# Altium integrated library Actel SmartFusion.IntLib: 80 symbols (part 4 of 14)
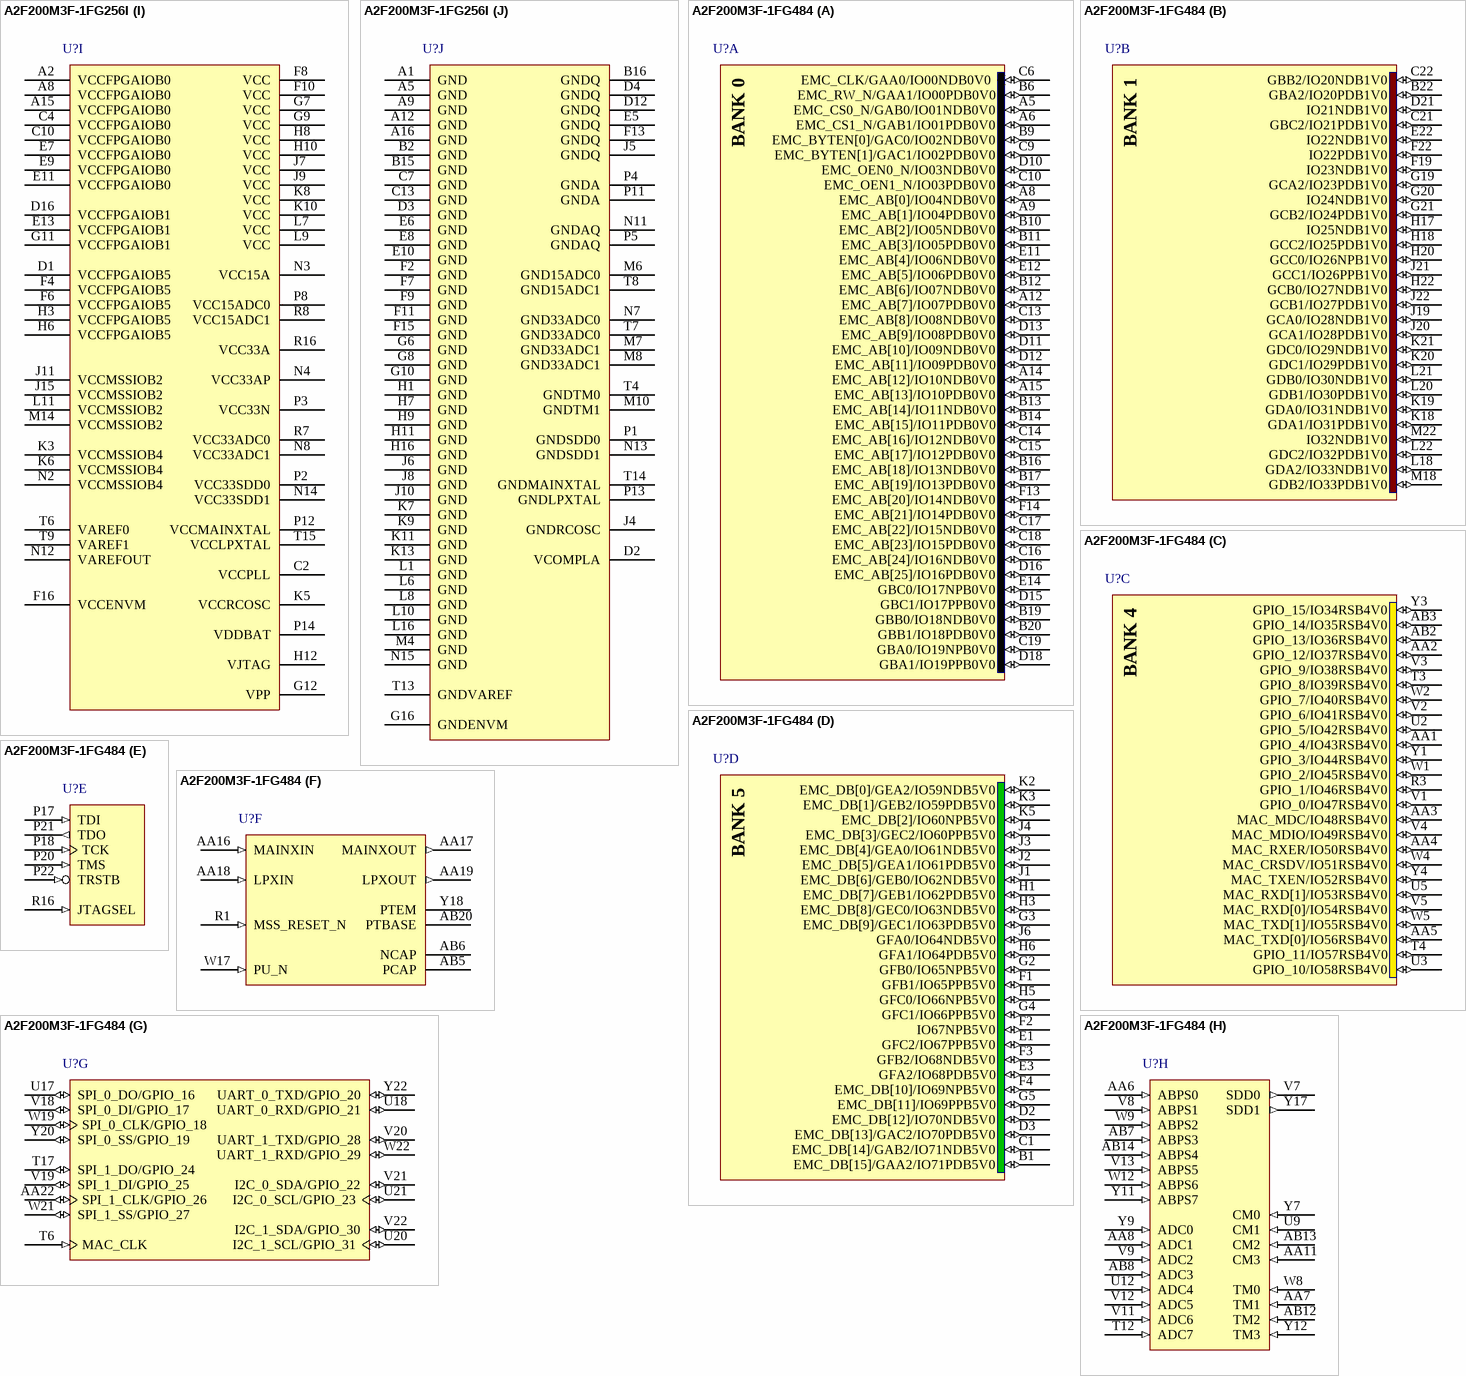
[diagram p88: symbols A2F200M3F-1FG256I to A2F200M3F-1FG484]

## A2F200M3F-1FG256I
designator U?
SmartFusion Intellegent Mixed-Signal FPGA with ARM Cortex-M3, 200000 System Gates, 256-Pin FBGA, 15% Faster than Standard Speed Grade, Industrial Grade; DatasheetVersion: rev7, Aug-2011; PackageVersion: rev39, Aug-2010; PackageReference: FG256; PackageDescription: 256-Ball Fine Pitch Plastic Ball Grid Array 1.00 mm Pitch (FG256); Code_JEDEC: MO-192-DAF-1; ComponentLink1Description: Manufacturer URL; ComponentLink1URL: http://www.actel.com/; ComponentLink2Description: SmartFusion Datasheet; ComponentLink2URL: http://www.actel.com/documents/SmartFusion_DS.pdf; ComponentLink3Description: Package Mechanical Drawings; ComponentLink3URL: http://www.actel.com/documents/PckgMechDrwngs.pdf; ComponentLink4Description: SmartFusion Documents; ComponentLink4URL: http://www.actel.com/products/smartfusion/docs.aspx
footprint FG256 (BGA, 256-Leads, Body 17x17mm, Pitch 1mm)
part A pins: A3 EMC_AB[0]/IO04NDB0V0 (io), A4 EMC_AB[1]/IO04PDB0V0 (io), A6 EMC_AB[3]/IO05PDB0V0 (io), A7 EMC_AB[5]/IO06PDB0V0 (io), A10 EMC_AB[14]/IO11NDB0V0 (io), A11 EMC_AB[15]/IO11PDB0V0 (io), A13 EMC_AB[20]/IO14NDB0V0 (io), A14 EMC_AB[24]/IO16NDB0V0 (io), B3 EMC_BYTEN[1]/GAC1/IO02PDB0V0 (io), B4 EMC_OEN0_N/IO03NDB0V0 (io), B5 EMC_OEN1_N/IO03PDB0V0 (io), B6 EMC_AB[2]/IO05NDB0V0 (io), B7 EMC_AB[4]/IO06NDB0V0 (io), B8 EMC_AB[9]/IO08PDB0V0 (io), B9 EMC_AB[12]/IO10NDB0V0 (io), B10 EMC_AB[13]/IO10PDB0V0 (io), B11 EMC_AB[16]/IO12NDB0V0 (io), B12 EMC_AB[18]/IO13NDB0V0 (io), B13 EMC_AB[21]/IO14PDB0V0 (io), B14 EMC_AB[25]/IO16PDB0V0 (io), C3 EMC_BYTEN[0]/GAC0/IO02NDB0V0 (io), C5 EMC_CS0_N/GAB0/IO01NDB0V0 (io), C6 EMC_CS1_N/GAB1/IO01PDB0V0 (io), C8 EMC_AB[8]/IO08NDB0V0 (io), C9 EMC_AB[11]/IO09PDB0V0 (io), C11 EMC_AB[17]/IO12PDB0V0 (io), C12 EMC_AB[19]/IO13PDB0V0 (io), D5 EMC_CLK/GAA0/IO00NDB0V0 (io), D6 EMC_RW_N/GAA1/IO00PDB0V0 (io), D7 EMC_AB[6]/IO07NDB0V0 (io), D8 EMC_AB[7]/IO07PDB0V0 (io), D9 EMC_AB[10]/IO09NDB0V0 (io), D10 EMC_AB[22]/IO15NDB0V0 (io), D11 EMC_AB[23]/IO15PDB0V0 (io)
part B pins: C14 GBA2/IO20PPB1V0 (io), C15 GCA2/IO23PDB1V0 (io), C16 IO23NDB1V0 (io), D13 GBB2/IO20NPB1V0 (io), D14 GCB2/IO24PDB1V0 (io), D15 IO24NDB1V0 (io), E12 GCA1/IO28PDB1V0 (io), E14 GCB1/IO27PDB1V0 (io), E15 GDC1/IO29PDB1V0 (io), E16 GDC0/IO29NDB1V0 (io), F12 GCA0/IO28NDB1V0 (io), F14 GCB0/IO27NDB1V0 (io)
part C pins: K1 MAC_MDIO/IO49RSB4V0 (io), K2 MAC_MDC/IO48RSB4V0 (io), L2 MAC_TXEN/IO52RSB4V0 (io), L3 MAC_CRSDV/IO51RSB4V0 (io), L4 MAC_RXER/IO50RSB4V0 (io), M1 MAC_TXD[0]/IO56RSB4V0 (io), M2 MAC_TXD[1]/IO55RSB4V0 (io), M3 MAC_RXD[0]/IO54RSB4V0 (io), N1 MAC_RXD[1]/IO53RSB4V0 (io)
part D pins: B1 EMC_DB[15]/GAA2/IO71PDB5V0 (io), C1 EMC_DB[14]/GAB2/IO71NDB5V0 (io), E1 EMC_DB[13]/GAC2/IO70PDB5V0 (io), E2 EMC_DB[12]/IO70NDB5V0 (io), E3 GFA2/IO68PDB5V0 (io), E4 EMC_DB[10]/IO69NPB5V0 (io), F1 EMC_DB[9]/GEC1/IO63PDB5V0 (io), F3 GFB2/IO68NDB5V0 (io), F5 EMC_DB[11]/IO69PPB5V0 (io), G1 EMC_DB[8]/GEC0/IO63NDB5V0 (io), G2 EMC_DB[7]/GEB1/IO62PDB5V0 (io), G3 EMC_DB[6]/GEB0/IO62NDB5V0 (io), G4 GFC2/IO67PDB5V0 (io), G5 IO67NDB5V0 (io), H2 EMC_DB[5]/GEA1/IO61PPB5V0 (io), H4 EMC_DB[1]/GEB2/IO59PDB5V0 (io), H5 EMC_DB[0]/GEA2/IO59NDB5V0 (io), J1 EMC_DB[4]/GEA0/IO61NPB5V0 (io), J2 EMC_DB[3]/GEC2/IO60PDB5V0 (io), J3 EMC_DB[2]/IO60NDB5V0 (io)
part E pins: G13 TRSTB (in), G14 TMS (in), G15 TCK (in), H13 TDO (out), H14 TDI (in), H15 JTAGSEL (in)
part F pins: K4 MSS_RESET_N (in), P15 PTEM, P16 PTBASE, R1 PCAP, R12 MAINXIN (in), R13 MAINXOUT (out), R14 LPXIN (in), R15 LPXOUT (out), T1 NCAP, T16 PU_N (in)
part G pins: J12 I2C_0_SCL/GPIO_23 (io), J13 I2C_0_SDA/GPIO_22 (io), J14 I2C_1_SCL/GPIO_31 (io), J16 I2C_1_SDA/GPIO_30 (io), K12 UART_0_RXD/GPIO_21 (io), K14 UART_1_TXD/GPIO_28 (io), K15 UART_1_RXD/GPIO_29 (io), K16 UART_0_TXD/GPIO_20 (io), L5 MAC_CLK (in), L12 SPI_1_DO/GPIO_24 (io), L13 SPI_1_SS/GPIO_27 (io), L14 SPI_1_CLK/GPIO_26 (io), L15 SPI_1_DI/GPIO_25 (io), M13 SPI_0_SS/GPIO_19 (io), M15 SPI_0_CLK/GPIO_18 (io), M16 SPI_0_DI/GPIO_17 (io), N16 SPI_0_DO/GPIO_16 (io)
part H pins: M5 ADC3 (in), M9 ADC4 (in), M11 TM2 (in), M12 CM2 (in), N5 ABPS3 (in), N6 TM1 (in), N9 ADC5 (in), N10 CM3 (in), P6 CM1 (in), P7 ADC2 (in), P9 ADC6 (in), P10 TM3 (in), R2 SDD0 (out), R3 ABPS0 (in), R4 TM0 (in), R5 ABPS2 (in), R6 ADC1 (in), R9 ADC7 (in), R10 ABPS7 (in), R11 ABPS4 (in), T2 ABPS1 (in), T3 CM0 (in), T5 ADC0 (in), T10 ABPS6 (in), T11 ABPS5 (in), T12 SDD1 (out)
part I pins: A2 VCCFPGAIOB0 (power), A8 VCCFPGAIOB0 (power), A15 VCCFPGAIOB0 (power), C2 VCCPLL (power), C4 VCCFPGAIOB0 (power), C10 VCCFPGAIOB0 (power), D1 VCCFPGAIOB5 (power), D16 VCCFPGAIOB1 (power), E7 VCCFPGAIOB0 (power), E9 VCCFPGAIOB0 (power), E11 VCCFPGAIOB0 (power), E13 VCCFPGAIOB1 (power), F4 VCCFPGAIOB5 (power), F6 VCCFPGAIOB5 (power), F8 VCC (power), F10 VCC (power), F16 VCCENVM (power), G7 VCC (power), G9 VCC (power), G11 VCCFPGAIOB1 (power), G12 VPP (power), H3 VCCFPGAIOB5 (power), H6 VCCFPGAIOB5 (power), H8 VCC (power), H10 VCC (power), H12 VJTAG (power), J7 VCC (power), J9 VCC (power), J11 VCCMSSIOB2 (power), J15 VCCMSSIOB2 (power), K3 VCCMSSIOB4 (power), K5 VCCRCOSC (power), K6 VCCMSSIOB4 (power), K8 VCC (power), K10 VCC (power), L7 VCC (power), L9 VCC (power), L11 VCCMSSIOB2 (power), M14 VCCMSSIOB2 (power), N2 VCCMSSIOB4 (power), N3 VCC15A (power), N4 VCC33AP (power), N8 VCC33ADC1 (power), N12 VAREFOUT (power), N14 VCC33SDD1 (power), P2 VCC33SDD0 (power), P3 VCC33N (power), P8 VCC15ADC0 (power), P12 VCCMAINXTAL (power), P14 VDDBAT (power), R7 VCC33ADC0 (power), R8 VCC15ADC1 (power), R16 VCC33A (power), T6 VAREF0 (power), T9 VAREF1 (power), T15 VCCLPXTAL (power)
part J pins: A1 GND (power), A5 GND (power), A9 GND (power), A12 GND (power), A16 GND (power), B2 GND (power), B15 GND (power), B16 GNDQ (power), C7 GND (power), C13 GND (power), D2 VCOMPLA (power), D3 GND (power), D4 GNDQ (power), D12 GNDQ (power), E5 GNDQ (power), E6 GND (power), E8 GND (power), E10 GND (power), F2 GND (power), F7 GND (power), F9 GND (power), F11 GND (power), F13 GNDQ (power), F15 GND (power), G6 GND (power), G8 GND (power), G10 GND (power), G16 GNDENVM (power), H1 GND (power), H7 GND (power), H9 GND (power), H11 GND (power), H16 GND (power), J4 GNDRCOSC (power), J5 GNDQ (power), J6 GND (power), J8 GND (power), J10 GND (power), K7 GND (power), K9 GND (power), K11 GND (power), K13 GND (power), L1 GND (power), L6 GND (power), L8 GND (power), L10 GND (power), L16 GND (power), M4 GND (power), M6 GND15ADC0 (power), M7 GND33ADC1 (power), M8 GND33ADC1 (power), M10 GNDTM1 (power), N7 GND33ADC0 (power), N11 GNDAQ (power), N13 GNDSDD1 (power), N15 GND (power), P1 GNDSDD0 (power), P4 GNDA (power), P5 GNDAQ (power), P11 GNDA (power), P13 GNDLPXTAL (power), T4 GNDTM0 (power), T7 GND33ADC0 (power), T8 GND15ADC1 (power), T13 GNDVAREF (power), T14 GNDMAINXTAL (power)
part A text: BANK 0
part B text: BANK 1
part C text: BANK 4
part D text: BANK 5

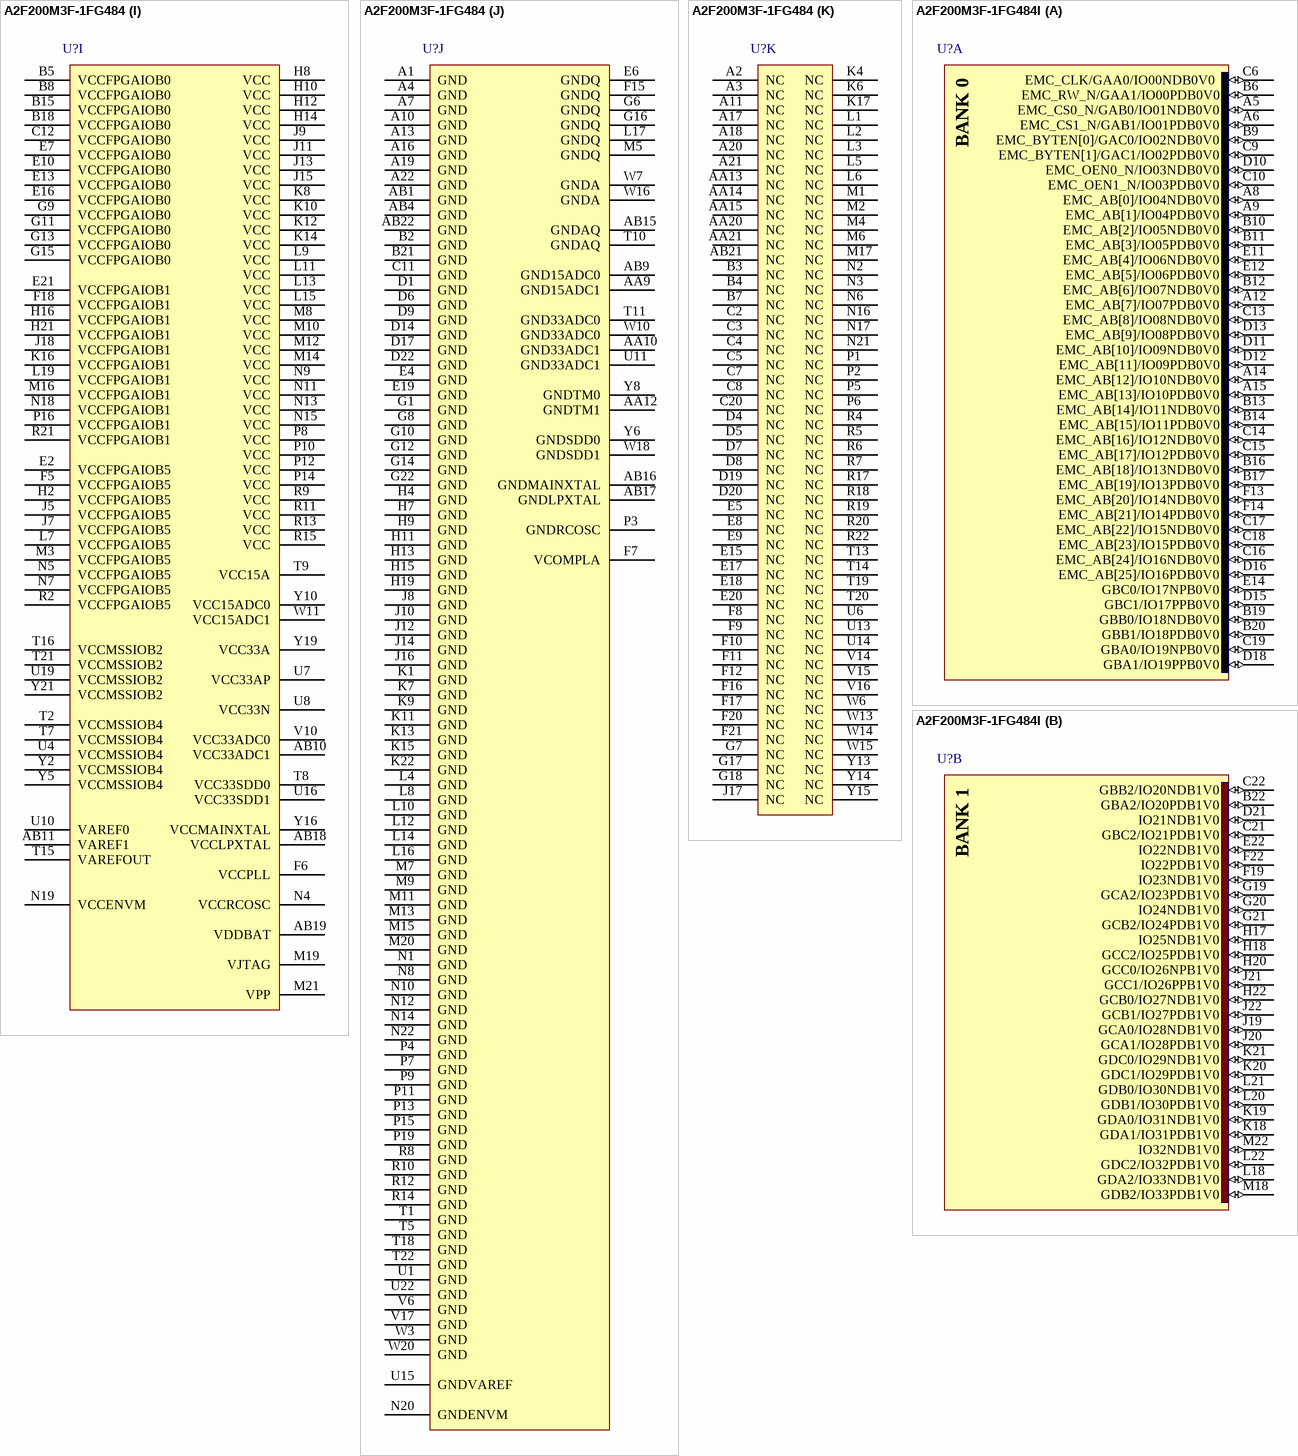
[diagram p22: symbols A2F200M3F-1FG484 to A2F200M3F-1FG484I]

## A2F200M3F-1FG484
designator U?
SmartFusion Intellegent Mixed-Signal FPGA with ARM Cortex-M3, 200000 System Gates, 484-Pin FBGA, 15% Faster than Standard Speed Grade, Commercial Grade; DatasheetVersion: rev7, Aug-2011; PackageVersion: rev39, Aug-2010; PackageReference: FG484; PackageDescription: 484-Ball Fine Pitch Plastic Ball Grid Array (FG484) - Fully Populated; Code_JEDEC: MS-034-AAJ-1; Code_IPC: BGA100P22X22-484; ComponentLink1Description: Manufacturer URL; ComponentLink1URL: http://www.actel.com/; ComponentLink2Description: SmartFusion Datasheet; ComponentLink2URL: http://www.actel.com/documents/SmartFusion_DS.pdf; ComponentLink3Description: Package Mechanical Drawings; ComponentLink3URL: http://www.actel.com/documents/PckgMechDrwngs.pdf; ComponentLink4Description: SmartFusion Documents; ComponentLink4URL: http://www.actel.com/products/smartfusion/docs.aspx
footprint FG484 (BGA, 484-Leads, Body 23x23mm, Pitch 1mm)
part A pins: A5 EMC_CS0_N/GAB0/IO01NDB0V0 (io), A6 EMC_CS1_N/GAB1/IO01PDB0V0 (io), A8 EMC_AB[0]/IO04NDB0V0 (io), A9 EMC_AB[1]/IO04PDB0V0 (io), A12 EMC_AB[7]/IO07PDB0V0 (io), A14 EMC_AB[12]/IO10NDB0V0 (io), A15 EMC_AB[13]/IO10PDB0V0 (io), B6 EMC_RW_N/GAA1/IO00PDB0V0 (io), B9 EMC_BYTEN[0]/GAC0/IO02NDB0V0 (io), B10 EMC_AB[2]/IO05NDB0V0 (io), B11 EMC_AB[3]/IO05PDB0V0 (io), B12 EMC_AB[6]/IO07NDB0V0 (io), B13 EMC_AB[14]/IO11NDB0V0 (io), B14 EMC_AB[15]/IO11PDB0V0 (io), B16 EMC_AB[18]/IO13NDB0V0 (io), B17 EMC_AB[19]/IO13PDB0V0 (io), B19 GBB0/IO18NDB0V0 (io), B20 GBB1/IO18PDB0V0 (io), C6 EMC_CLK/GAA0/IO00NDB0V0 (io), C9 EMC_BYTEN[1]/GAC1/IO02PDB0V0 (io), C10 EMC_OEN1_N/IO03PDB0V0 (io), C13 EMC_AB[8]/IO08NDB0V0 (io), C14 EMC_AB[16]/IO12NDB0V0 (io), C15 EMC_AB[17]/IO12PDB0V0 (io), C16 EMC_AB[24]/IO16NDB0V0 (io), C17 EMC_AB[22]/IO15NDB0V0 (io), C18 EMC_AB[23]/IO15PDB0V0 (io), C19 GBA0/IO19NPB0V0 (io), D10 EMC_OEN0_N/IO03NDB0V0 (io), D11 EMC_AB[10]/IO09NDB0V0 (io), D12 EMC_AB[11]/IO09PDB0V0 (io), D13 EMC_AB[9]/IO08PDB0V0 (io), D15 GBC1/IO17PPB0V0 (io), D16 EMC_AB[25]/IO16PDB0V0 (io), D18 GBA1/IO19PPB0V0 (io), E11 EMC_AB[4]/IO06NDB0V0 (io), E12 EMC_AB[5]/IO06PDB0V0 (io), E14 GBC0/IO17NPB0V0 (io), F13 EMC_AB[20]/IO14NDB0V0 (io), F14 EMC_AB[21]/IO14PDB0V0 (io)
part B pins: B22 GBA2/IO20PDB1V0 (io), C21 GBC2/IO21PDB1V0 (io), C22 GBB2/IO20NDB1V0 (io), D21 IO21NDB1V0 (io), E22 IO22NDB1V0 (io), F19 IO23NDB1V0 (io), F22 IO22PDB1V0 (io), G19 GCA2/IO23PDB1V0 (io), G20 IO24NDB1V0 (io), G21 GCB2/IO24PDB1V0 (io), H17 IO25NDB1V0 (io), H18 GCC2/IO25PDB1V0 (io), H20 GCC0/IO26NPB1V0 (io), H22 GCB0/IO27NDB1V0 (io), J19 GCA0/IO28NDB1V0 (io), J20 GCA1/IO28PDB1V0 (io), J21 GCC1/IO26PPB1V0 (io), J22 GCB1/IO27PDB1V0 (io), K18 GDA1/IO31PDB1V0 (io), K19 GDA0/IO31NDB1V0 (io), K20 GDC1/IO29PDB1V0 (io), K21 GDC0/IO29NDB1V0 (io), L18 GDA2/IO33NDB1V0 (io), L20 GDB1/IO30PDB1V0 (io), L21 GDB0/IO30NDB1V0 (io), L22 GDC2/IO32PDB1V0 (io), M18 GDB2/IO33PDB1V0 (io), M22 IO32NDB1V0 (io)
part C pins: AA1 GPIO_4/IO43RSB4V0 (io), AA2 GPIO_12/IO37RSB4V0 (io), AA3 MAC_MDC/IO48RSB4V0 (io), AA4 MAC_RXER/IO50RSB4V0 (io), AA5 MAC_TXD[0]/IO56RSB4V0 (io), AB2 GPIO_13/IO36RSB4V0 (io), AB3 GPIO_14/IO35RSB4V0 (io), R3 GPIO_1/IO46RSB4V0 (io), T3 GPIO_8/IO39RSB4V0 (io), T4 GPIO_11/IO57RSB4V0 (io), U2 GPIO_5/IO42RSB4V0 (io), U3 GPIO_10/IO58RSB4V0 (io), U5 MAC_RXD[1]/IO53RSB4V0 (io), V1 GPIO_0/IO47RSB4V0 (io), V2 GPIO_6/IO41RSB4V0 (io), V3 GPIO_9/IO38RSB4V0 (io), V4 MAC_MDIO/IO49RSB4V0 (io), V5 MAC_RXD[0]/IO54RSB4V0 (io), W1 GPIO_2/IO45RSB4V0 (io), W2 GPIO_7/IO40RSB4V0 (io), W4 MAC_CRSDV/IO51RSB4V0 (io), W5 MAC_TXD[1]/IO55RSB4V0 (io), Y1 GPIO_3/IO44RSB4V0 (io), Y3 GPIO_15/IO34RSB4V0 (io), Y4 MAC_TXEN/IO52RSB4V0 (io)
part D pins: B1 EMC_DB[15]/GAA2/IO71PDB5V0 (io), C1 EMC_DB[14]/GAB2/IO71NDB5V0 (io), D2 EMC_DB[12]/IO70NDB5V0 (io), D3 EMC_DB[13]/GAC2/IO70PDB5V0 (io), E1 GFC2/IO67PPB5V0 (io), E3 GFA2/IO68PDB5V0 (io), F1 GFB1/IO65PPB5V0 (io), F2 IO67NPB5V0 (io), F3 GFB2/IO68NDB5V0 (io), F4 EMC_DB[10]/IO69NPB5V0 (io), G2 GFB0/IO65NPB5V0 (io), G3 EMC_DB[9]/GEC1/IO63PDB5V0 (io), G4 GFC1/IO66PPB5V0 (io), G5 EMC_DB[11]/IO69PPB5V0 (io), H1 EMC_DB[7]/GEB1/IO62PDB5V0 (io), H3 EMC_DB[8]/GEC0/IO63NDB5V0 (io), H5 GFC0/IO66NPB5V0 (io), H6 GFA1/IO64PDB5V0 (io), J1 EMC_DB[6]/GEB0/IO62NDB5V0 (io), J2 EMC_DB[5]/GEA1/IO61PDB5V0 (io), J3 EMC_DB[4]/GEA0/IO61NDB5V0 (io), J4 EMC_DB[3]/GEC2/IO60PPB5V0 (io), J6 GFA0/IO64NDB5V0 (io), K2 EMC_DB[0]/GEA2/IO59NDB5V0 (io), K3 EMC_DB[1]/GEB2/IO59PDB5V0 (io), K5 EMC_DB[2]/IO60NPB5V0 (io)
part E pins: P17 TDI (in), P18 TCK (in), P20 TMS (in), P21 TDO (out), P22 TRSTB (in), R16 JTAGSEL (in)
part F pins: AA16 MAINXIN (in), AA17 MAINXOUT (out), AA18 LPXIN (in), AA19 LPXOUT (out), AB5 PCAP, AB6 NCAP, AB20 PTBASE, R1 MSS_RESET_N (in), W17 PU_N (in), Y18 PTEM
part G pins: AA22 SPI_1_CLK/GPIO_26 (io), T6 MAC_CLK (in), T17 SPI_1_DO/GPIO_24 (io), U17 SPI_0_DO/GPIO_16 (io), U18 UART_0_RXD/GPIO_21 (io), U20 I2C_1_SCL/GPIO_31 (io), U21 I2C_0_SCL/GPIO_23 (io), V18 SPI_0_DI/GPIO_17 (io), V19 SPI_1_DI/GPIO_25 (io), V20 UART_1_TXD/GPIO_28 (io), V21 I2C_0_SDA/GPIO_22 (io), V22 I2C_1_SDA/GPIO_30 (io), W19 SPI_0_CLK/GPIO_18 (io), W21 SPI_1_SS/GPIO_27 (io), W22 UART_1_RXD/GPIO_29 (io), Y20 SPI_0_SS/GPIO_19 (io), Y22 UART_0_TXD/GPIO_20 (io)
part H pins: AA6 ABPS0 (in), AA7 TM1 (in), AA8 ADC1 (in), AA11 CM3 (in), AB7 ABPS3 (in), AB8 ADC3 (in), AB12 TM2 (in), AB13 CM2 (in), AB14 ABPS4 (in), T12 ADC7 (in), U9 CM1 (in), U12 ADC4 (in), V7 SDD0 (out), V8 ABPS1 (in), V9 ADC2 (in), V11 ADC6 (in), V12 ADC5 (in), V13 ABPS5 (in), W8 TM0 (in), W9 ABPS2 (in), W12 ABPS6 (in), Y7 CM0 (in), Y9 ADC0 (in), Y11 ABPS7 (in), Y12 TM3 (in), Y17 SDD1 (out)
part I pins: AB10 VCC33ADC1 (power), AB11 VAREF1 (power), AB18 VCCLPXTAL (power), AB19 VDDBAT (power), B5 VCCFPGAIOB0 (power), B8 VCCFPGAIOB0 (power), B15 VCCFPGAIOB0 (power), B18 VCCFPGAIOB0 (power), C12 VCCFPGAIOB0 (power), E2 VCCFPGAIOB5 (power), E7 VCCFPGAIOB0 (power), E10 VCCFPGAIOB0 (power), E13 VCCFPGAIOB0 (power), E16 VCCFPGAIOB0 (power), E21 VCCFPGAIOB1 (power), F5 VCCFPGAIOB5 (power), F6 VCCPLL (power), F18 VCCFPGAIOB1 (power), G9 VCCFPGAIOB0 (power), G11 VCCFPGAIOB0 (power), G13 VCCFPGAIOB0 (power), G15 VCCFPGAIOB0 (power), H2 VCCFPGAIOB5 (power), H8 VCC (power), H10 VCC (power), H12 VCC (power), H14 VCC (power), H16 VCCFPGAIOB1 (power), H21 VCCFPGAIOB1 (power), J5 VCCFPGAIOB5 (power), J7 VCCFPGAIOB5 (power), J9 VCC (power), J11 VCC (power), J13 VCC (power), J15 VCC (power), J18 VCCFPGAIOB1 (power), K8 VCC (power), K10 VCC (power), K12 VCC (power), K14 VCC (power), K16 VCCFPGAIOB1 (power), L7 VCCFPGAIOB5 (power), L9 VCC (power), L11 VCC (power), L13 VCC (power), L15 VCC (power), L19 VCCFPGAIOB1 (power), M3 VCCFPGAIOB5 (power), M8 VCC (power), M10 VCC (power), M12 VCC (power), M14 VCC (power), M16 VCCFPGAIOB1 (power), M19 VJTAG (power), M21 VPP (power), N4 VCCRCOSC (power), N5 VCCFPGAIOB5 (power), N7 VCCFPGAIOB5 (power), N9 VCC (power), N11 VCC (power), N13 VCC (power), N15 VCC (power), N18 VCCFPGAIOB1 (power), N19 VCCENVM (power), P8 VCC (power), P10 VCC (power), P12 VCC (power), P14 VCC (power), P16 VCCFPGAIOB1 (power), R2 VCCFPGAIOB5 (power), R9 VCC (power), R11 VCC (power), R13 VCC (power), R15 VCC (power), R21 VCCFPGAIOB1 (power), T2 VCCMSSIOB4 (power), T7 VCCMSSIOB4 (power), T8 VCC33SDD0 (power), T9 VCC15A (power), T15 VAREFOUT (power), T16 VCCMSSIOB2 (power), T21 VCCMSSIOB2 (power), U4 VCCMSSIOB4 (power), U7 VCC33AP (power), U8 VCC33N (power), U10 VAREF0 (power), U16 VCC33SDD1 (power), U19 VCCMSSIOB2 (power), V10 VCC33ADC0 (power), W11 VCC15ADC1 (power), Y2 VCCMSSIOB4 (power), Y5 VCCMSSIOB4 (power), Y10 VCC15ADC0 (power), Y16 VCCMAINXTAL (power), Y19 VCC33A (power), Y21 VCCMSSIOB2 (power)
part J pins: A1 GND (power), A4 GND (power), A7 GND (power), A10 GND (power), A13 GND (power), A16 GND (power), A19 GND (power), A22 GND (power), AA9 GND15ADC1 (power), AA10 GND33ADC1 (power), AA12 GNDTM1 (power), AB1 GND (power), AB4 GND (power), AB9 GND15ADC0 (power), AB15 GNDAQ (power), AB16 GNDMAINXTAL (power), AB17 GNDLPXTAL (power), AB22 GND (power), B2 GND (power), B21 GND (power), C11 GND (power), D1 GND (power), D6 GND (power), D9 GND (power), D14 GND (power), D17 GND (power), D22 GND (power), E4 GND (power), E6 GNDQ (power), E19 GND (power), F7 VCOMPLA (power), F15 GNDQ (power), G1 GND (power), G6 GNDQ (power), G8 GND (power), G10 GND (power), G12 GND (power), G14 GND (power), G16 GNDQ (power), G22 GND (power), H4 GND (power), H7 GND (power), H9 GND (power), H11 GND (power), H13 GND (power), H15 GND (power), H19 GND (power), J8 GND (power), J10 GND (power), J12 GND (power), J14 GND (power), J16 GND (power), K1 GND (power), K7 GND (power), K9 GND (power), K11 GND (power), K13 GND (power), K15 GND (power), K22 GND (power), L4 GND (power), L8 GND (power), L10 GND (power), L12 GND (power), L14 GND (power), L16 GND (power), L17 GNDQ (power), M5 GNDQ (power), M7 GND (power), M9 GND (power), M11 GND (power), M13 GND (power), M15 GND (power), M20 GND (power), N1 GND (power), N8 GND (power), N10 GND (power), N12 GND (power), N14 GND (power), N20 GNDENVM (power), N22 GND (power), P3 GNDRCOSC (power), P4 GND (power), P7 GND (power), P9 GND (power), P11 GND (power), P13 GND (power), P15 GND (power), P19 GND (power), R8 GND (power), R10 GND (power), R12 GND (power), R14 GND (power), T1 GND (power), T5 GND (power), T10 GNDAQ (power), T11 GND33ADC0 (power), T18 GND (power), T22 GND (power), U1 GND (power), U11 GND33ADC1 (power), U15 GNDVAREF (power), U22 GND (power), V6 GND (power), V17 GND (power), W3 GND (power), W7 GNDA (power), W10 GND33ADC0 (power), W16 GNDA (power), W18 GNDSDD1 (power), W20 GND (power), Y6 GNDSDD0 (power), Y8 GNDTM0 (power)
part K pins: A2 NC, A3 NC, A11 NC, A17 NC, A18 NC, A20 NC, A21 NC, AA13 NC, AA14 NC, AA15 NC, AA20 NC, AA21 NC, AB21 NC, B3 NC, B4 NC, B7 NC, C2 NC, C3 NC, C4 NC, C5 NC, C7 NC, C8 NC, C20 NC, D4 NC, D5 NC, D7 NC, D8 NC, D19 NC, D20 NC, E5 NC, E8 NC, E9 NC, E15 NC, E17 NC, E18 NC, E20 NC, F8 NC, F9 NC, F10 NC, F11 NC, F12 NC, F16 NC, F17 NC, F20 NC, F21 NC, G7 NC, G17 NC, G18 NC, J17 NC, K4 NC, K6 NC, K17 NC, L1 NC, L2 NC, L3 NC, L5 NC, L6 NC, M1 NC, M2 NC, M4 NC, M6 NC, M17 NC, N2 NC, N3 NC, N6 NC, N16 NC, N17 NC, N21 NC, P1 NC, P2 NC, P5 NC, P6 NC, R4 NC, R5 NC, R6 NC, R7 NC, R17 NC, R18 NC, R19 NC, R20 NC, R22 NC, T13 NC, T14 NC, T19 NC, T20 NC, U6 NC, U13 NC, U14 NC, V14 NC, V15 NC, V16 NC, W6 NC, W13 NC, W14 NC, W15 NC, Y13 NC, Y14 NC, Y15 NC
part A text: BANK 0
part B text: BANK 1
part C text: BANK 4
part D text: BANK 5

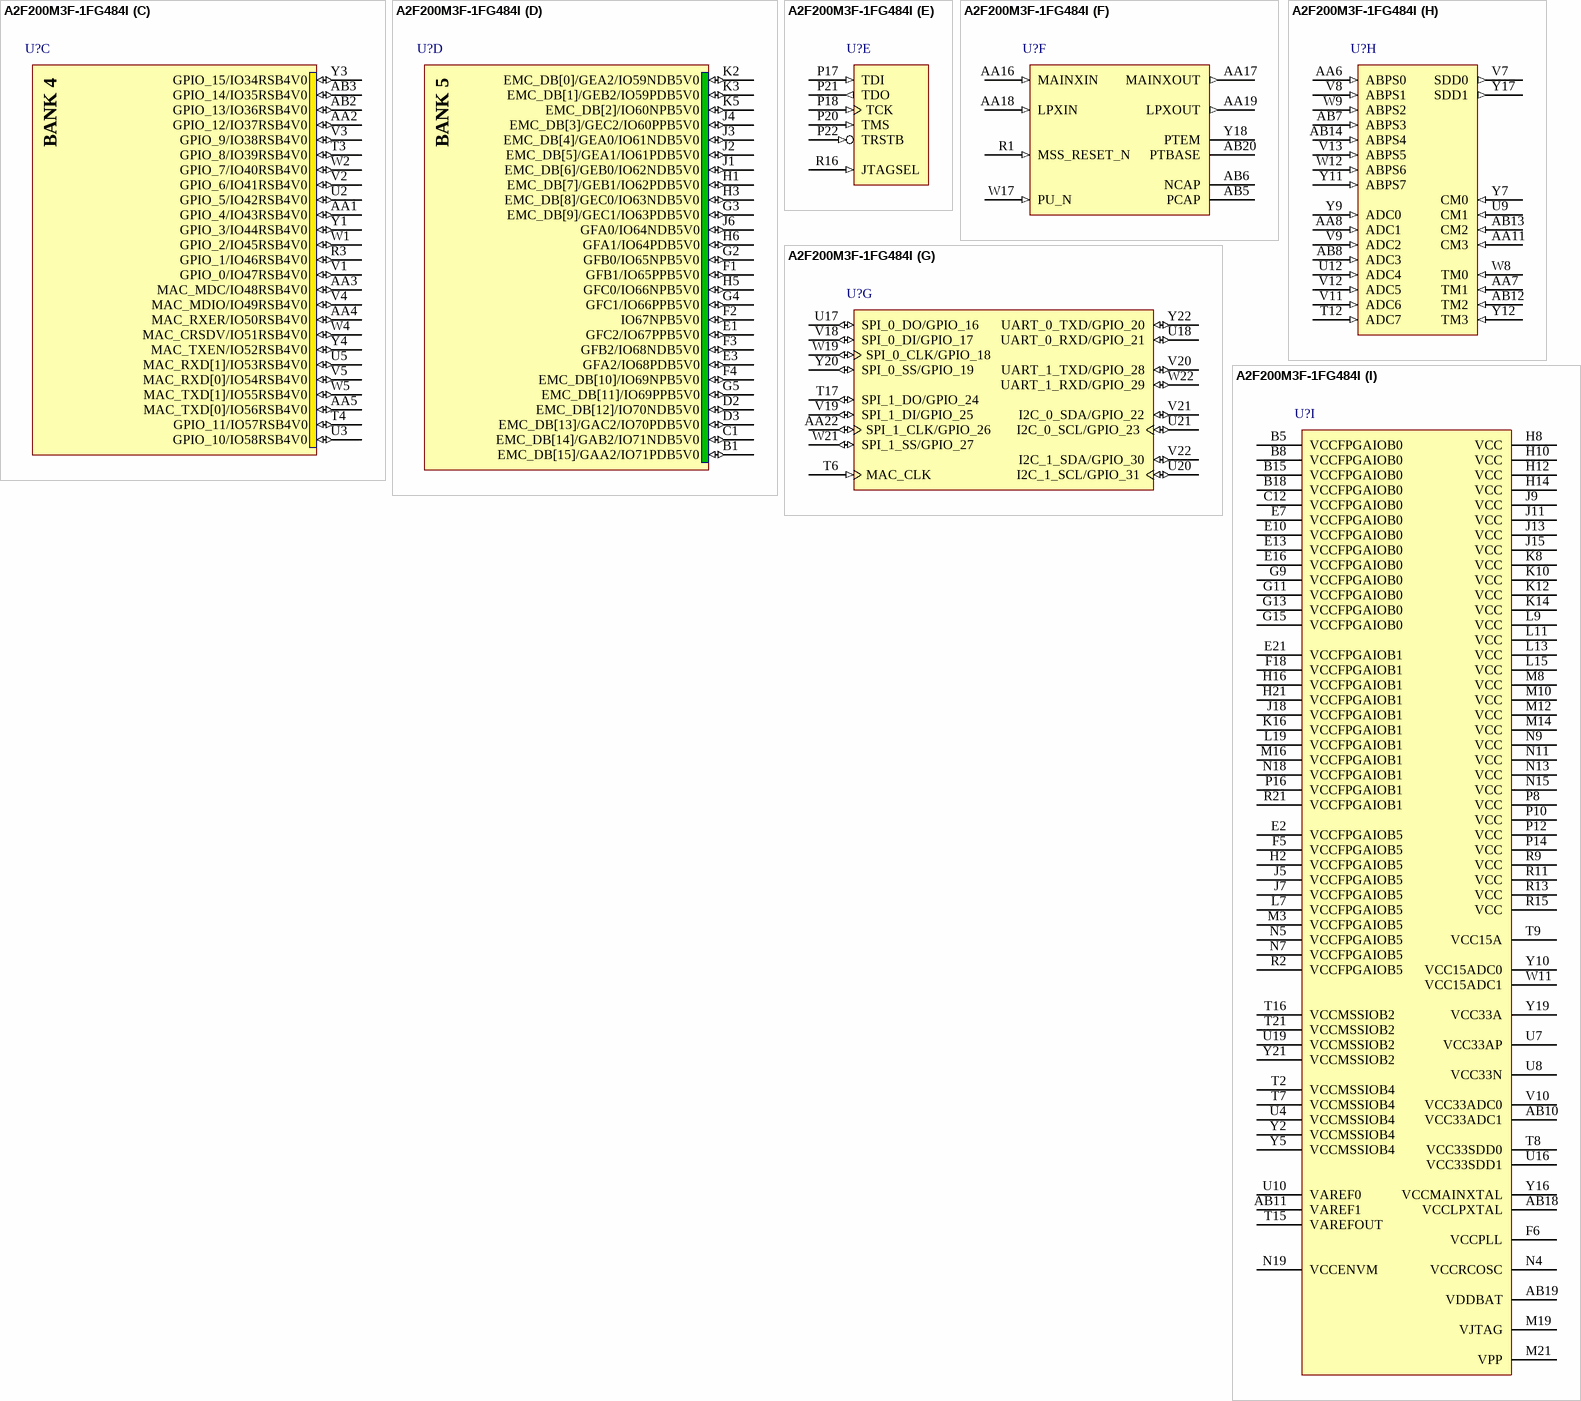
[diagram p23: symbol A2F200M3F-1FG484I]

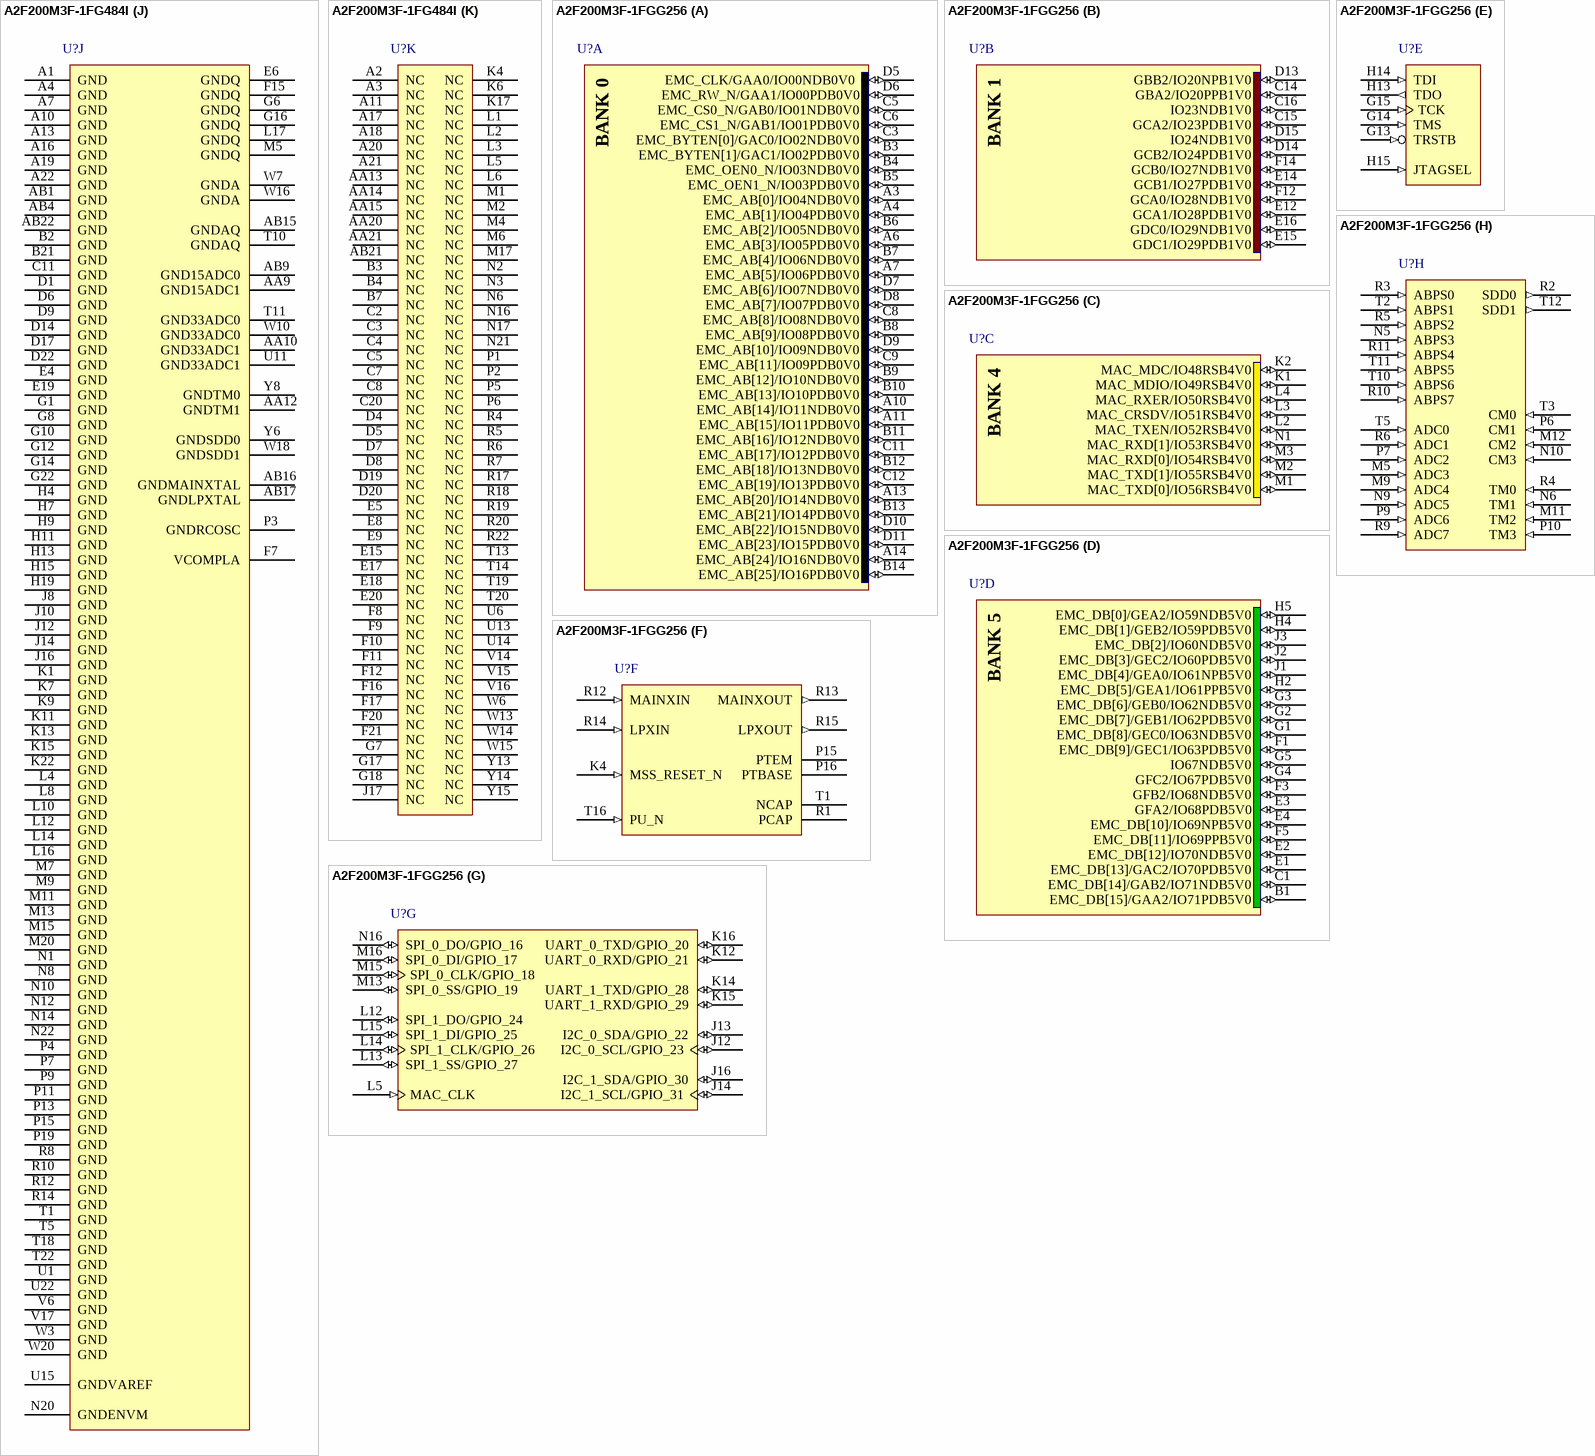
[diagram p24: symbols A2F200M3F-1FG484I to A2F200M3F-1FGG256]

## A2F200M3F-1FG484I
designator U?
SmartFusion Intellegent Mixed-Signal FPGA with ARM Cortex-M3, 200000 System Gates, 484-Pin FBGA, 15% Faster than Standard Speed Grade, Industrial Grade; DatasheetVersion: rev7, Aug-2011; PackageVersion: rev39, Aug-2010; PackageReference: FG484; PackageDescription: 484-Ball Fine Pitch Plastic Ball Grid Array (FG484) - Fully Populated; Code_JEDEC: MS-034-AAJ-1; Code_IPC: BGA100P22X22-484; ComponentLink1Description: Manufacturer URL; ComponentLink1URL: http://www.actel.com/; ComponentLink2Description: SmartFusion Datasheet; ComponentLink2URL: http://www.actel.com/documents/SmartFusion_DS.pdf; ComponentLink3Description: Package Mechanical Drawings; ComponentLink3URL: http://www.actel.com/documents/PckgMechDrwngs.pdf; ComponentLink4Description: SmartFusion Documents; ComponentLink4URL: http://www.actel.com/products/smartfusion/docs.aspx
footprint FG484 (BGA, 484-Leads, Body 23x23mm, Pitch 1mm)
part A pins: A5 EMC_CS0_N/GAB0/IO01NDB0V0 (io), A6 EMC_CS1_N/GAB1/IO01PDB0V0 (io), A8 EMC_AB[0]/IO04NDB0V0 (io), A9 EMC_AB[1]/IO04PDB0V0 (io), A12 EMC_AB[7]/IO07PDB0V0 (io), A14 EMC_AB[12]/IO10NDB0V0 (io), A15 EMC_AB[13]/IO10PDB0V0 (io), B6 EMC_RW_N/GAA1/IO00PDB0V0 (io), B9 EMC_BYTEN[0]/GAC0/IO02NDB0V0 (io), B10 EMC_AB[2]/IO05NDB0V0 (io), B11 EMC_AB[3]/IO05PDB0V0 (io), B12 EMC_AB[6]/IO07NDB0V0 (io), B13 EMC_AB[14]/IO11NDB0V0 (io), B14 EMC_AB[15]/IO11PDB0V0 (io), B16 EMC_AB[18]/IO13NDB0V0 (io), B17 EMC_AB[19]/IO13PDB0V0 (io), B19 GBB0/IO18NDB0V0 (io), B20 GBB1/IO18PDB0V0 (io), C6 EMC_CLK/GAA0/IO00NDB0V0 (io), C9 EMC_BYTEN[1]/GAC1/IO02PDB0V0 (io), C10 EMC_OEN1_N/IO03PDB0V0 (io), C13 EMC_AB[8]/IO08NDB0V0 (io), C14 EMC_AB[16]/IO12NDB0V0 (io), C15 EMC_AB[17]/IO12PDB0V0 (io), C16 EMC_AB[24]/IO16NDB0V0 (io), C17 EMC_AB[22]/IO15NDB0V0 (io), C18 EMC_AB[23]/IO15PDB0V0 (io), C19 GBA0/IO19NPB0V0 (io), D10 EMC_OEN0_N/IO03NDB0V0 (io), D11 EMC_AB[10]/IO09NDB0V0 (io), D12 EMC_AB[11]/IO09PDB0V0 (io), D13 EMC_AB[9]/IO08PDB0V0 (io), D15 GBC1/IO17PPB0V0 (io), D16 EMC_AB[25]/IO16PDB0V0 (io), D18 GBA1/IO19PPB0V0 (io), E11 EMC_AB[4]/IO06NDB0V0 (io), E12 EMC_AB[5]/IO06PDB0V0 (io), E14 GBC0/IO17NPB0V0 (io), F13 EMC_AB[20]/IO14NDB0V0 (io), F14 EMC_AB[21]/IO14PDB0V0 (io)
part B pins: B22 GBA2/IO20PDB1V0 (io), C21 GBC2/IO21PDB1V0 (io), C22 GBB2/IO20NDB1V0 (io), D21 IO21NDB1V0 (io), E22 IO22NDB1V0 (io), F19 IO23NDB1V0 (io), F22 IO22PDB1V0 (io), G19 GCA2/IO23PDB1V0 (io), G20 IO24NDB1V0 (io), G21 GCB2/IO24PDB1V0 (io), H17 IO25NDB1V0 (io), H18 GCC2/IO25PDB1V0 (io), H20 GCC0/IO26NPB1V0 (io), H22 GCB0/IO27NDB1V0 (io), J19 GCA0/IO28NDB1V0 (io), J20 GCA1/IO28PDB1V0 (io), J21 GCC1/IO26PPB1V0 (io), J22 GCB1/IO27PDB1V0 (io), K18 GDA1/IO31PDB1V0 (io), K19 GDA0/IO31NDB1V0 (io), K20 GDC1/IO29PDB1V0 (io), K21 GDC0/IO29NDB1V0 (io), L18 GDA2/IO33NDB1V0 (io), L20 GDB1/IO30PDB1V0 (io), L21 GDB0/IO30NDB1V0 (io), L22 GDC2/IO32PDB1V0 (io), M18 GDB2/IO33PDB1V0 (io), M22 IO32NDB1V0 (io)
part C pins: AA1 GPIO_4/IO43RSB4V0 (io), AA2 GPIO_12/IO37RSB4V0 (io), AA3 MAC_MDC/IO48RSB4V0 (io), AA4 MAC_RXER/IO50RSB4V0 (io), AA5 MAC_TXD[0]/IO56RSB4V0 (io), AB2 GPIO_13/IO36RSB4V0 (io), AB3 GPIO_14/IO35RSB4V0 (io), R3 GPIO_1/IO46RSB4V0 (io), T3 GPIO_8/IO39RSB4V0 (io), T4 GPIO_11/IO57RSB4V0 (io), U2 GPIO_5/IO42RSB4V0 (io), U3 GPIO_10/IO58RSB4V0 (io), U5 MAC_RXD[1]/IO53RSB4V0 (io), V1 GPIO_0/IO47RSB4V0 (io), V2 GPIO_6/IO41RSB4V0 (io), V3 GPIO_9/IO38RSB4V0 (io), V4 MAC_MDIO/IO49RSB4V0 (io), V5 MAC_RXD[0]/IO54RSB4V0 (io), W1 GPIO_2/IO45RSB4V0 (io), W2 GPIO_7/IO40RSB4V0 (io), W4 MAC_CRSDV/IO51RSB4V0 (io), W5 MAC_TXD[1]/IO55RSB4V0 (io), Y1 GPIO_3/IO44RSB4V0 (io), Y3 GPIO_15/IO34RSB4V0 (io), Y4 MAC_TXEN/IO52RSB4V0 (io)
part D pins: B1 EMC_DB[15]/GAA2/IO71PDB5V0 (io), C1 EMC_DB[14]/GAB2/IO71NDB5V0 (io), D2 EMC_DB[12]/IO70NDB5V0 (io), D3 EMC_DB[13]/GAC2/IO70PDB5V0 (io), E1 GFC2/IO67PPB5V0 (io), E3 GFA2/IO68PDB5V0 (io), F1 GFB1/IO65PPB5V0 (io), F2 IO67NPB5V0 (io), F3 GFB2/IO68NDB5V0 (io), F4 EMC_DB[10]/IO69NPB5V0 (io), G2 GFB0/IO65NPB5V0 (io), G3 EMC_DB[9]/GEC1/IO63PDB5V0 (io), G4 GFC1/IO66PPB5V0 (io), G5 EMC_DB[11]/IO69PPB5V0 (io), H1 EMC_DB[7]/GEB1/IO62PDB5V0 (io), H3 EMC_DB[8]/GEC0/IO63NDB5V0 (io), H5 GFC0/IO66NPB5V0 (io), H6 GFA1/IO64PDB5V0 (io), J1 EMC_DB[6]/GEB0/IO62NDB5V0 (io), J2 EMC_DB[5]/GEA1/IO61PDB5V0 (io), J3 EMC_DB[4]/GEA0/IO61NDB5V0 (io), J4 EMC_DB[3]/GEC2/IO60PPB5V0 (io), J6 GFA0/IO64NDB5V0 (io), K2 EMC_DB[0]/GEA2/IO59NDB5V0 (io), K3 EMC_DB[1]/GEB2/IO59PDB5V0 (io), K5 EMC_DB[2]/IO60NPB5V0 (io)
part E pins: P17 TDI (in), P18 TCK (in), P20 TMS (in), P21 TDO (out), P22 TRSTB (in), R16 JTAGSEL (in)
part F pins: AA16 MAINXIN (in), AA17 MAINXOUT (out), AA18 LPXIN (in), AA19 LPXOUT (out), AB5 PCAP, AB6 NCAP, AB20 PTBASE, R1 MSS_RESET_N (in), W17 PU_N (in), Y18 PTEM
part G pins: AA22 SPI_1_CLK/GPIO_26 (io), T6 MAC_CLK (in), T17 SPI_1_DO/GPIO_24 (io), U17 SPI_0_DO/GPIO_16 (io), U18 UART_0_RXD/GPIO_21 (io), U20 I2C_1_SCL/GPIO_31 (io), U21 I2C_0_SCL/GPIO_23 (io), V18 SPI_0_DI/GPIO_17 (io), V19 SPI_1_DI/GPIO_25 (io), V20 UART_1_TXD/GPIO_28 (io), V21 I2C_0_SDA/GPIO_22 (io), V22 I2C_1_SDA/GPIO_30 (io), W19 SPI_0_CLK/GPIO_18 (io), W21 SPI_1_SS/GPIO_27 (io), W22 UART_1_RXD/GPIO_29 (io), Y20 SPI_0_SS/GPIO_19 (io), Y22 UART_0_TXD/GPIO_20 (io)
part H pins: AA6 ABPS0 (in), AA7 TM1 (in), AA8 ADC1 (in), AA11 CM3 (in), AB7 ABPS3 (in), AB8 ADC3 (in), AB12 TM2 (in), AB13 CM2 (in), AB14 ABPS4 (in), T12 ADC7 (in), U9 CM1 (in), U12 ADC4 (in), V7 SDD0 (out), V8 ABPS1 (in), V9 ADC2 (in), V11 ADC6 (in), V12 ADC5 (in), V13 ABPS5 (in), W8 TM0 (in), W9 ABPS2 (in), W12 ABPS6 (in), Y7 CM0 (in), Y9 ADC0 (in), Y11 ABPS7 (in), Y12 TM3 (in), Y17 SDD1 (out)
part I pins: AB10 VCC33ADC1 (power), AB11 VAREF1 (power), AB18 VCCLPXTAL (power), AB19 VDDBAT (power), B5 VCCFPGAIOB0 (power), B8 VCCFPGAIOB0 (power), B15 VCCFPGAIOB0 (power), B18 VCCFPGAIOB0 (power), C12 VCCFPGAIOB0 (power), E2 VCCFPGAIOB5 (power), E7 VCCFPGAIOB0 (power), E10 VCCFPGAIOB0 (power), E13 VCCFPGAIOB0 (power), E16 VCCFPGAIOB0 (power), E21 VCCFPGAIOB1 (power), F5 VCCFPGAIOB5 (power), F6 VCCPLL (power), F18 VCCFPGAIOB1 (power), G9 VCCFPGAIOB0 (power), G11 VCCFPGAIOB0 (power), G13 VCCFPGAIOB0 (power), G15 VCCFPGAIOB0 (power), H2 VCCFPGAIOB5 (power), H8 VCC (power), H10 VCC (power), H12 VCC (power), H14 VCC (power), H16 VCCFPGAIOB1 (power), H21 VCCFPGAIOB1 (power), J5 VCCFPGAIOB5 (power), J7 VCCFPGAIOB5 (power), J9 VCC (power), J11 VCC (power), J13 VCC (power), J15 VCC (power), J18 VCCFPGAIOB1 (power), K8 VCC (power), K10 VCC (power), K12 VCC (power), K14 VCC (power), K16 VCCFPGAIOB1 (power), L7 VCCFPGAIOB5 (power), L9 VCC (power), L11 VCC (power), L13 VCC (power), L15 VCC (power), L19 VCCFPGAIOB1 (power), M3 VCCFPGAIOB5 (power), M8 VCC (power), M10 VCC (power), M12 VCC (power), M14 VCC (power), M16 VCCFPGAIOB1 (power), M19 VJTAG (power), M21 VPP (power), N4 VCCRCOSC (power), N5 VCCFPGAIOB5 (power), N7 VCCFPGAIOB5 (power), N9 VCC (power), N11 VCC (power), N13 VCC (power), N15 VCC (power), N18 VCCFPGAIOB1 (power), N19 VCCENVM (power), P8 VCC (power), P10 VCC (power), P12 VCC (power), P14 VCC (power), P16 VCCFPGAIOB1 (power), R2 VCCFPGAIOB5 (power), R9 VCC (power), R11 VCC (power), R13 VCC (power), R15 VCC (power), R21 VCCFPGAIOB1 (power), T2 VCCMSSIOB4 (power), T7 VCCMSSIOB4 (power), T8 VCC33SDD0 (power), T9 VCC15A (power), T15 VAREFOUT (power), T16 VCCMSSIOB2 (power), T21 VCCMSSIOB2 (power), U4 VCCMSSIOB4 (power), U7 VCC33AP (power), U8 VCC33N (power), U10 VAREF0 (power), U16 VCC33SDD1 (power), U19 VCCMSSIOB2 (power), V10 VCC33ADC0 (power), W11 VCC15ADC1 (power), Y2 VCCMSSIOB4 (power), Y5 VCCMSSIOB4 (power), Y10 VCC15ADC0 (power), Y16 VCCMAINXTAL (power), Y19 VCC33A (power), Y21 VCCMSSIOB2 (power)
part J pins: A1 GND (power), A4 GND (power), A7 GND (power), A10 GND (power), A13 GND (power), A16 GND (power), A19 GND (power), A22 GND (power), AA9 GND15ADC1 (power), AA10 GND33ADC1 (power), AA12 GNDTM1 (power), AB1 GND (power), AB4 GND (power), AB9 GND15ADC0 (power), AB15 GNDAQ (power), AB16 GNDMAINXTAL (power), AB17 GNDLPXTAL (power), AB22 GND (power), B2 GND (power), B21 GND (power), C11 GND (power), D1 GND (power), D6 GND (power), D9 GND (power), D14 GND (power), D17 GND (power), D22 GND (power), E4 GND (power), E6 GNDQ (power), E19 GND (power), F7 VCOMPLA (power), F15 GNDQ (power), G1 GND (power), G6 GNDQ (power), G8 GND (power), G10 GND (power), G12 GND (power), G14 GND (power), G16 GNDQ (power), G22 GND (power), H4 GND (power), H7 GND (power), H9 GND (power), H11 GND (power), H13 GND (power), H15 GND (power), H19 GND (power), J8 GND (power), J10 GND (power), J12 GND (power), J14 GND (power), J16 GND (power), K1 GND (power), K7 GND (power), K9 GND (power), K11 GND (power), K13 GND (power), K15 GND (power), K22 GND (power), L4 GND (power), L8 GND (power), L10 GND (power), L12 GND (power), L14 GND (power), L16 GND (power), L17 GNDQ (power), M5 GNDQ (power), M7 GND (power), M9 GND (power), M11 GND (power), M13 GND (power), M15 GND (power), M20 GND (power), N1 GND (power), N8 GND (power), N10 GND (power), N12 GND (power), N14 GND (power), N20 GNDENVM (power), N22 GND (power), P3 GNDRCOSC (power), P4 GND (power), P7 GND (power), P9 GND (power), P11 GND (power), P13 GND (power), P15 GND (power), P19 GND (power), R8 GND (power), R10 GND (power), R12 GND (power), R14 GND (power), T1 GND (power), T5 GND (power), T10 GNDAQ (power), T11 GND33ADC0 (power), T18 GND (power), T22 GND (power), U1 GND (power), U11 GND33ADC1 (power), U15 GNDVAREF (power), U22 GND (power), V6 GND (power), V17 GND (power), W3 GND (power), W7 GNDA (power), W10 GND33ADC0 (power), W16 GNDA (power), W18 GNDSDD1 (power), W20 GND (power), Y6 GNDSDD0 (power), Y8 GNDTM0 (power)
part K pins: A2 NC, A3 NC, A11 NC, A17 NC, A18 NC, A20 NC, A21 NC, AA13 NC, AA14 NC, AA15 NC, AA20 NC, AA21 NC, AB21 NC, B3 NC, B4 NC, B7 NC, C2 NC, C3 NC, C4 NC, C5 NC, C7 NC, C8 NC, C20 NC, D4 NC, D5 NC, D7 NC, D8 NC, D19 NC, D20 NC, E5 NC, E8 NC, E9 NC, E15 NC, E17 NC, E18 NC, E20 NC, F8 NC, F9 NC, F10 NC, F11 NC, F12 NC, F16 NC, F17 NC, F20 NC, F21 NC, G7 NC, G17 NC, G18 NC, J17 NC, K4 NC, K6 NC, K17 NC, L1 NC, L2 NC, L3 NC, L5 NC, L6 NC, M1 NC, M2 NC, M4 NC, M6 NC, M17 NC, N2 NC, N3 NC, N6 NC, N16 NC, N17 NC, N21 NC, P1 NC, P2 NC, P5 NC, P6 NC, R4 NC, R5 NC, R6 NC, R7 NC, R17 NC, R18 NC, R19 NC, R20 NC, R22 NC, T13 NC, T14 NC, T19 NC, T20 NC, U6 NC, U13 NC, U14 NC, V14 NC, V15 NC, V16 NC, W6 NC, W13 NC, W14 NC, W15 NC, Y13 NC, Y14 NC, Y15 NC
part A text: BANK 0
part B text: BANK 1
part C text: BANK 4
part D text: BANK 5

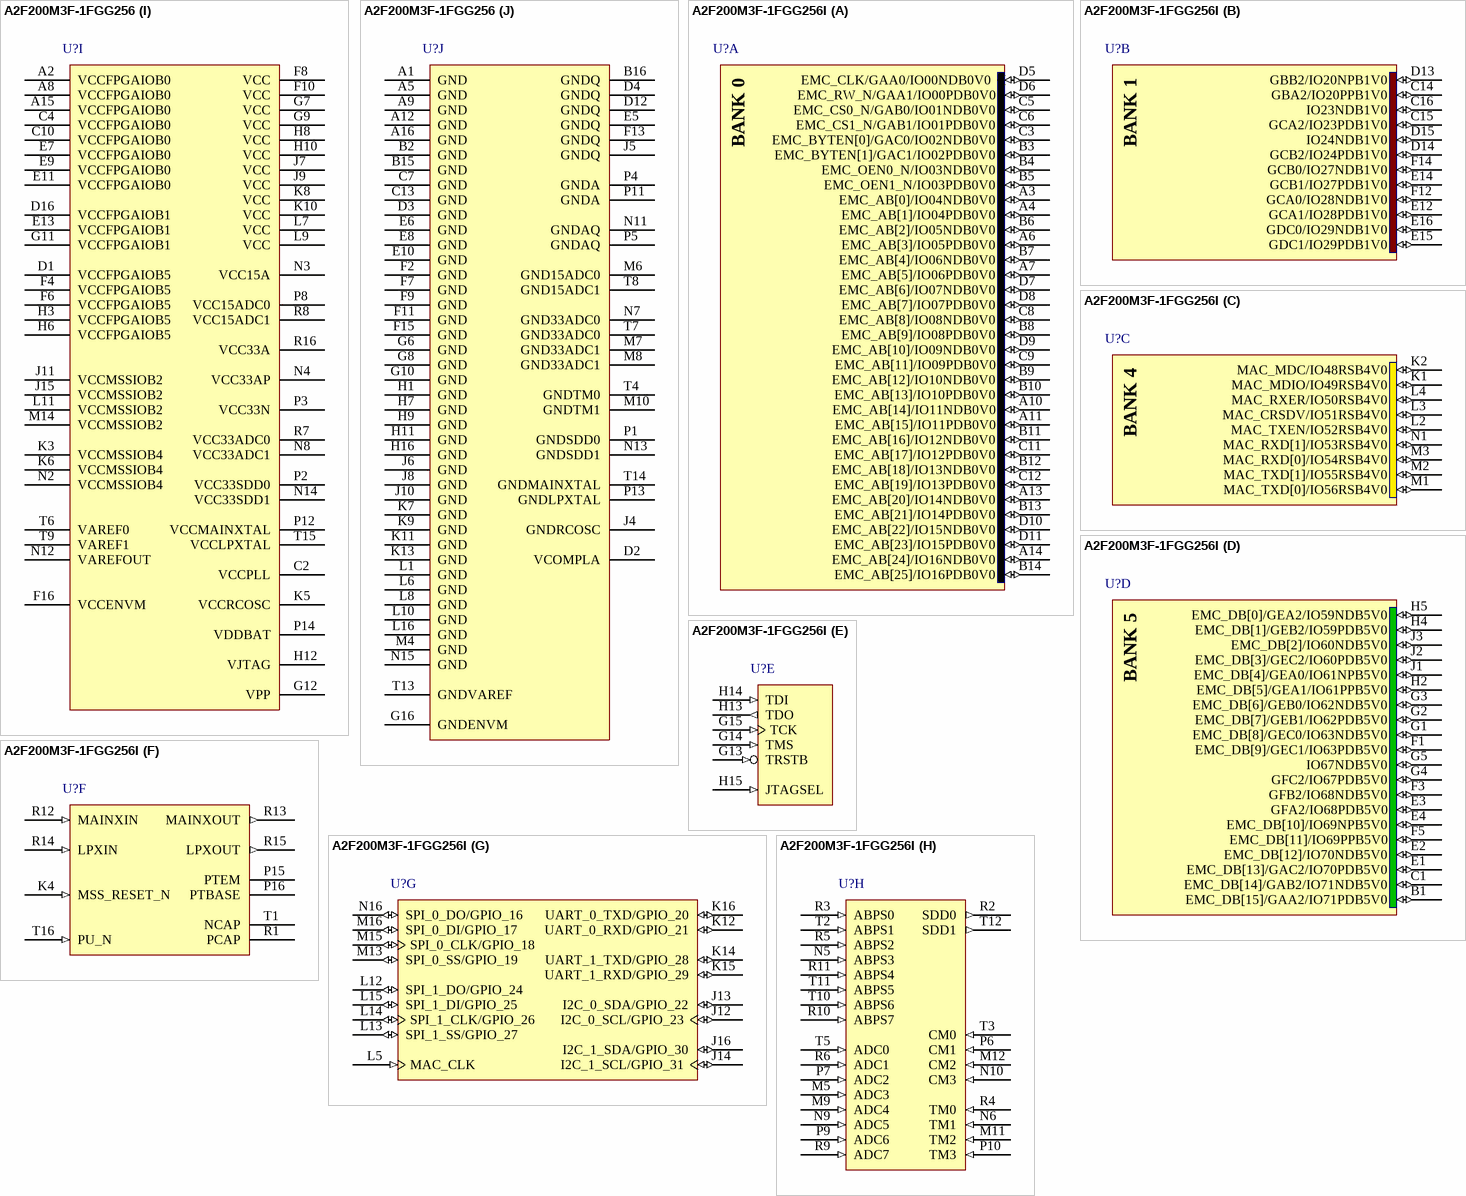
[diagram p25: symbols A2F200M3F-1FGG256 to A2F200M3F-1FGG256I]

## A2F200M3F-1FGG256
designator U?
SmartFusion Intellegent Mixed-Signal FPGA with ARM Cortex-M3, 200000 System Gates, 256-Pin FBGA, 15% Faster than Standard Speed Grade, Commercial Grade, Pb-Free; DatasheetVersion: rev7, Aug-2011; PackageVersion: rev39, Aug-2010; PackageReference: FG256; PackageDescription: 256-Ball Fine Pitch Plastic Ball Grid Array 1.00 mm Pitch (FG256); Code_JEDEC: MO-192-DAF-1; ComponentLink1Description: Manufacturer URL; ComponentLink1URL: http://www.actel.com/; ComponentLink2Description: SmartFusion Datasheet; ComponentLink2URL: http://www.actel.com/documents/SmartFusion_DS.pdf; ComponentLink3Description: Package Mechanical Drawings; ComponentLink3URL: http://www.actel.com/documents/PckgMechDrwngs.pdf; ComponentLink4Description: SmartFusion Documents; ComponentLink4URL: http://www.actel.com/products/smartfusion/docs.aspx
footprint FG256 (BGA, 256-Leads, Body 17x17mm, Pitch 1mm)
part A pins: A3 EMC_AB[0]/IO04NDB0V0 (io), A4 EMC_AB[1]/IO04PDB0V0 (io), A6 EMC_AB[3]/IO05PDB0V0 (io), A7 EMC_AB[5]/IO06PDB0V0 (io), A10 EMC_AB[14]/IO11NDB0V0 (io), A11 EMC_AB[15]/IO11PDB0V0 (io), A13 EMC_AB[20]/IO14NDB0V0 (io), A14 EMC_AB[24]/IO16NDB0V0 (io), B3 EMC_BYTEN[1]/GAC1/IO02PDB0V0 (io), B4 EMC_OEN0_N/IO03NDB0V0 (io), B5 EMC_OEN1_N/IO03PDB0V0 (io), B6 EMC_AB[2]/IO05NDB0V0 (io), B7 EMC_AB[4]/IO06NDB0V0 (io), B8 EMC_AB[9]/IO08PDB0V0 (io), B9 EMC_AB[12]/IO10NDB0V0 (io), B10 EMC_AB[13]/IO10PDB0V0 (io), B11 EMC_AB[16]/IO12NDB0V0 (io), B12 EMC_AB[18]/IO13NDB0V0 (io), B13 EMC_AB[21]/IO14PDB0V0 (io), B14 EMC_AB[25]/IO16PDB0V0 (io), C3 EMC_BYTEN[0]/GAC0/IO02NDB0V0 (io), C5 EMC_CS0_N/GAB0/IO01NDB0V0 (io), C6 EMC_CS1_N/GAB1/IO01PDB0V0 (io), C8 EMC_AB[8]/IO08NDB0V0 (io), C9 EMC_AB[11]/IO09PDB0V0 (io), C11 EMC_AB[17]/IO12PDB0V0 (io), C12 EMC_AB[19]/IO13PDB0V0 (io), D5 EMC_CLK/GAA0/IO00NDB0V0 (io), D6 EMC_RW_N/GAA1/IO00PDB0V0 (io), D7 EMC_AB[6]/IO07NDB0V0 (io), D8 EMC_AB[7]/IO07PDB0V0 (io), D9 EMC_AB[10]/IO09NDB0V0 (io), D10 EMC_AB[22]/IO15NDB0V0 (io), D11 EMC_AB[23]/IO15PDB0V0 (io)
part B pins: C14 GBA2/IO20PPB1V0 (io), C15 GCA2/IO23PDB1V0 (io), C16 IO23NDB1V0 (io), D13 GBB2/IO20NPB1V0 (io), D14 GCB2/IO24PDB1V0 (io), D15 IO24NDB1V0 (io), E12 GCA1/IO28PDB1V0 (io), E14 GCB1/IO27PDB1V0 (io), E15 GDC1/IO29PDB1V0 (io), E16 GDC0/IO29NDB1V0 (io), F12 GCA0/IO28NDB1V0 (io), F14 GCB0/IO27NDB1V0 (io)
part C pins: K1 MAC_MDIO/IO49RSB4V0 (io), K2 MAC_MDC/IO48RSB4V0 (io), L2 MAC_TXEN/IO52RSB4V0 (io), L3 MAC_CRSDV/IO51RSB4V0 (io), L4 MAC_RXER/IO50RSB4V0 (io), M1 MAC_TXD[0]/IO56RSB4V0 (io), M2 MAC_TXD[1]/IO55RSB4V0 (io), M3 MAC_RXD[0]/IO54RSB4V0 (io), N1 MAC_RXD[1]/IO53RSB4V0 (io)
part D pins: B1 EMC_DB[15]/GAA2/IO71PDB5V0 (io), C1 EMC_DB[14]/GAB2/IO71NDB5V0 (io), E1 EMC_DB[13]/GAC2/IO70PDB5V0 (io), E2 EMC_DB[12]/IO70NDB5V0 (io), E3 GFA2/IO68PDB5V0 (io), E4 EMC_DB[10]/IO69NPB5V0 (io), F1 EMC_DB[9]/GEC1/IO63PDB5V0 (io), F3 GFB2/IO68NDB5V0 (io), F5 EMC_DB[11]/IO69PPB5V0 (io), G1 EMC_DB[8]/GEC0/IO63NDB5V0 (io), G2 EMC_DB[7]/GEB1/IO62PDB5V0 (io), G3 EMC_DB[6]/GEB0/IO62NDB5V0 (io), G4 GFC2/IO67PDB5V0 (io), G5 IO67NDB5V0 (io), H2 EMC_DB[5]/GEA1/IO61PPB5V0 (io), H4 EMC_DB[1]/GEB2/IO59PDB5V0 (io), H5 EMC_DB[0]/GEA2/IO59NDB5V0 (io), J1 EMC_DB[4]/GEA0/IO61NPB5V0 (io), J2 EMC_DB[3]/GEC2/IO60PDB5V0 (io), J3 EMC_DB[2]/IO60NDB5V0 (io)
part E pins: G13 TRSTB (in), G14 TMS (in), G15 TCK (in), H13 TDO (out), H14 TDI (in), H15 JTAGSEL (in)
part F pins: K4 MSS_RESET_N (in), P15 PTEM, P16 PTBASE, R1 PCAP, R12 MAINXIN (in), R13 MAINXOUT (out), R14 LPXIN (in), R15 LPXOUT (out), T1 NCAP, T16 PU_N (in)
part G pins: J12 I2C_0_SCL/GPIO_23 (io), J13 I2C_0_SDA/GPIO_22 (io), J14 I2C_1_SCL/GPIO_31 (io), J16 I2C_1_SDA/GPIO_30 (io), K12 UART_0_RXD/GPIO_21 (io), K14 UART_1_TXD/GPIO_28 (io), K15 UART_1_RXD/GPIO_29 (io), K16 UART_0_TXD/GPIO_20 (io), L5 MAC_CLK (in), L12 SPI_1_DO/GPIO_24 (io), L13 SPI_1_SS/GPIO_27 (io), L14 SPI_1_CLK/GPIO_26 (io), L15 SPI_1_DI/GPIO_25 (io), M13 SPI_0_SS/GPIO_19 (io), M15 SPI_0_CLK/GPIO_18 (io), M16 SPI_0_DI/GPIO_17 (io), N16 SPI_0_DO/GPIO_16 (io)
part H pins: M5 ADC3 (in), M9 ADC4 (in), M11 TM2 (in), M12 CM2 (in), N5 ABPS3 (in), N6 TM1 (in), N9 ADC5 (in), N10 CM3 (in), P6 CM1 (in), P7 ADC2 (in), P9 ADC6 (in), P10 TM3 (in), R2 SDD0 (out), R3 ABPS0 (in), R4 TM0 (in), R5 ABPS2 (in), R6 ADC1 (in), R9 ADC7 (in), R10 ABPS7 (in), R11 ABPS4 (in), T2 ABPS1 (in), T3 CM0 (in), T5 ADC0 (in), T10 ABPS6 (in), T11 ABPS5 (in), T12 SDD1 (out)
part I pins: A2 VCCFPGAIOB0 (power), A8 VCCFPGAIOB0 (power), A15 VCCFPGAIOB0 (power), C2 VCCPLL (power), C4 VCCFPGAIOB0 (power), C10 VCCFPGAIOB0 (power), D1 VCCFPGAIOB5 (power), D16 VCCFPGAIOB1 (power), E7 VCCFPGAIOB0 (power), E9 VCCFPGAIOB0 (power), E11 VCCFPGAIOB0 (power), E13 VCCFPGAIOB1 (power), F4 VCCFPGAIOB5 (power), F6 VCCFPGAIOB5 (power), F8 VCC (power), F10 VCC (power), F16 VCCENVM (power), G7 VCC (power), G9 VCC (power), G11 VCCFPGAIOB1 (power), G12 VPP (power), H3 VCCFPGAIOB5 (power), H6 VCCFPGAIOB5 (power), H8 VCC (power), H10 VCC (power), H12 VJTAG (power), J7 VCC (power), J9 VCC (power), J11 VCCMSSIOB2 (power), J15 VCCMSSIOB2 (power), K3 VCCMSSIOB4 (power), K5 VCCRCOSC (power), K6 VCCMSSIOB4 (power), K8 VCC (power), K10 VCC (power), L7 VCC (power), L9 VCC (power), L11 VCCMSSIOB2 (power), M14 VCCMSSIOB2 (power), N2 VCCMSSIOB4 (power), N3 VCC15A (power), N4 VCC33AP (power), N8 VCC33ADC1 (power), N12 VAREFOUT (power), N14 VCC33SDD1 (power), P2 VCC33SDD0 (power), P3 VCC33N (power), P8 VCC15ADC0 (power), P12 VCCMAINXTAL (power), P14 VDDBAT (power), R7 VCC33ADC0 (power), R8 VCC15ADC1 (power), R16 VCC33A (power), T6 VAREF0 (power), T9 VAREF1 (power), T15 VCCLPXTAL (power)
part J pins: A1 GND (power), A5 GND (power), A9 GND (power), A12 GND (power), A16 GND (power), B2 GND (power), B15 GND (power), B16 GNDQ (power), C7 GND (power), C13 GND (power), D2 VCOMPLA (power), D3 GND (power), D4 GNDQ (power), D12 GNDQ (power), E5 GNDQ (power), E6 GND (power), E8 GND (power), E10 GND (power), F2 GND (power), F7 GND (power), F9 GND (power), F11 GND (power), F13 GNDQ (power), F15 GND (power), G6 GND (power), G8 GND (power), G10 GND (power), G16 GNDENVM (power), H1 GND (power), H7 GND (power), H9 GND (power), H11 GND (power), H16 GND (power), J4 GNDRCOSC (power), J5 GNDQ (power), J6 GND (power), J8 GND (power), J10 GND (power), K7 GND (power), K9 GND (power), K11 GND (power), K13 GND (power), L1 GND (power), L6 GND (power), L8 GND (power), L10 GND (power), L16 GND (power), M4 GND (power), M6 GND15ADC0 (power), M7 GND33ADC1 (power), M8 GND33ADC1 (power), M10 GNDTM1 (power), N7 GND33ADC0 (power), N11 GNDAQ (power), N13 GNDSDD1 (power), N15 GND (power), P1 GNDSDD0 (power), P4 GNDA (power), P5 GNDAQ (power), P11 GNDA (power), P13 GNDLPXTAL (power), T4 GNDTM0 (power), T7 GND33ADC0 (power), T8 GND15ADC1 (power), T13 GNDVAREF (power), T14 GNDMAINXTAL (power)
part A text: BANK 0
part B text: BANK 1
part C text: BANK 4
part D text: BANK 5

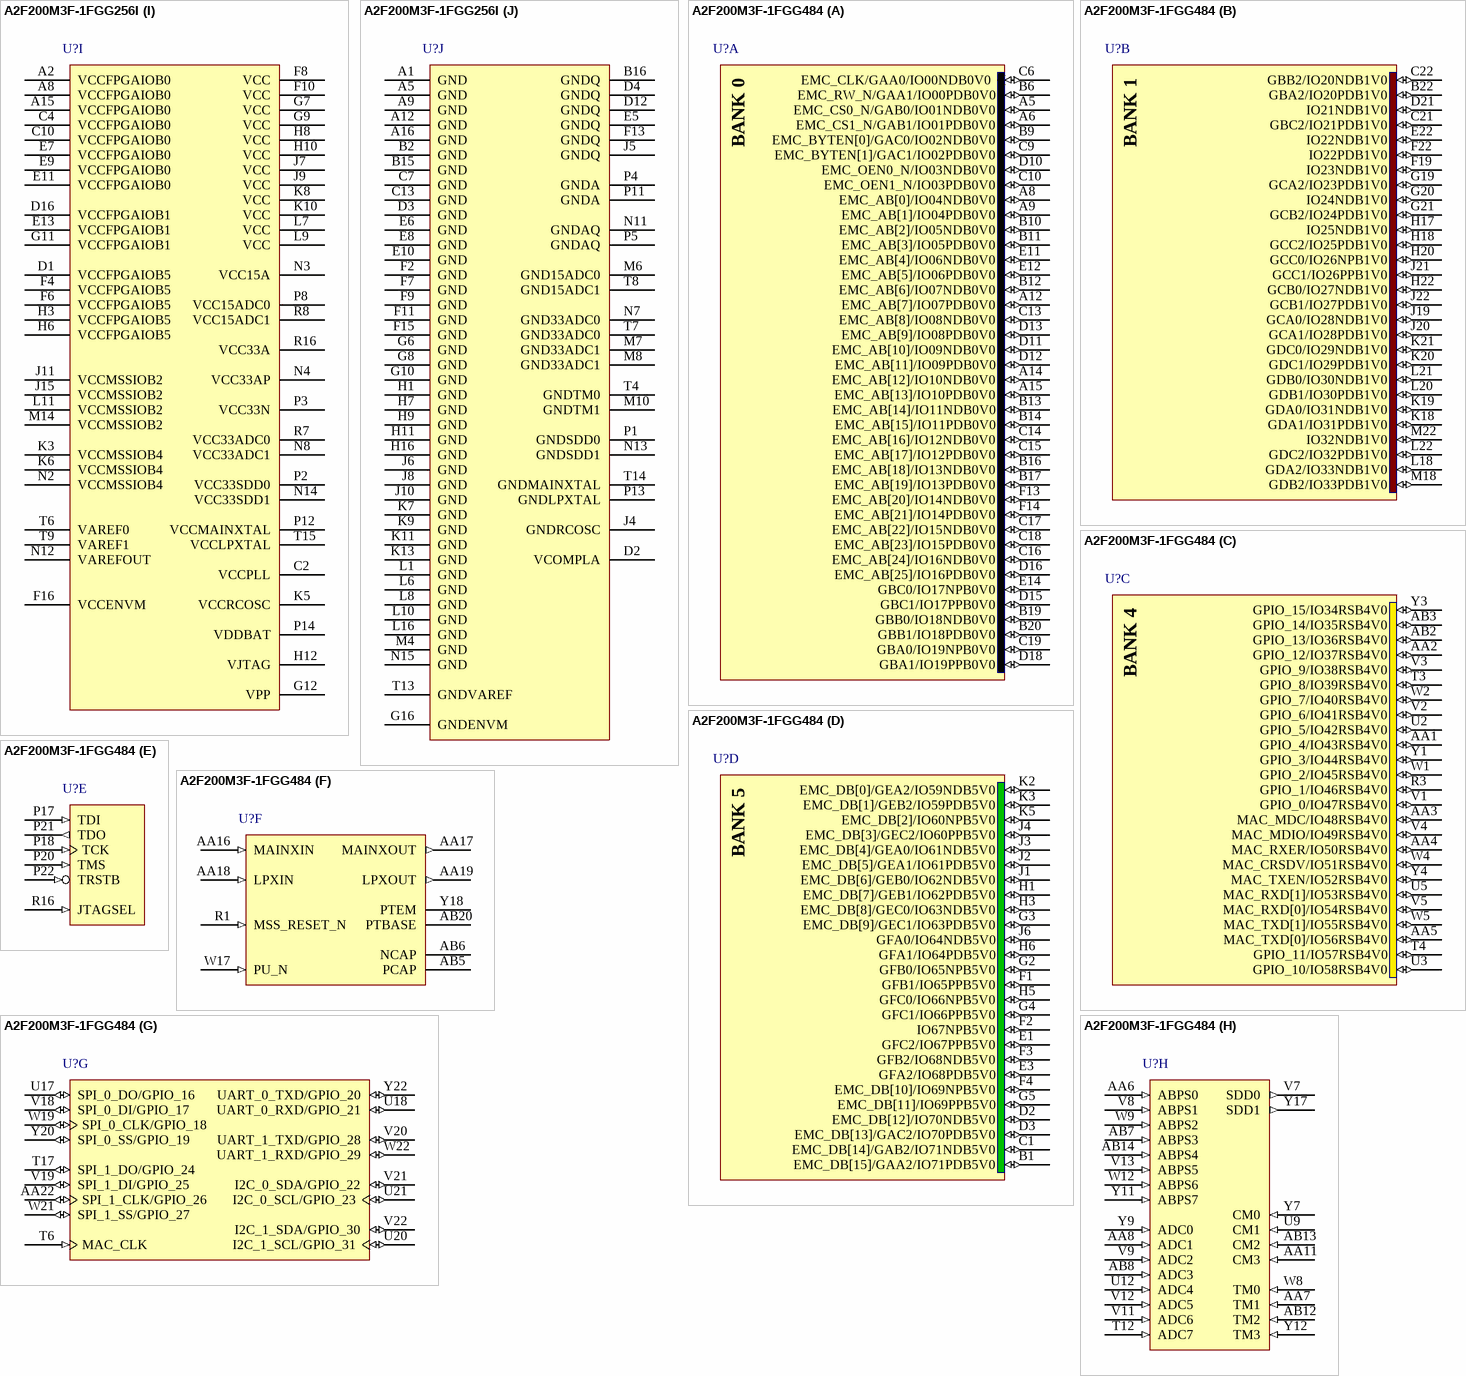
[diagram p26: symbols A2F200M3F-1FGG256I to A2F200M3F-1FGG484]

## A2F200M3F-1FGG256I
designator U?
SmartFusion Intellegent Mixed-Signal FPGA with ARM Cortex-M3, 200000 System Gates, 256-Pin FBGA, 15% Faster than Standard Speed Grade, Industrial Grade, Pb-Free; DatasheetVersion: rev7, Aug-2011; PackageVersion: rev39, Aug-2010; PackageReference: FG256; PackageDescription: 256-Ball Fine Pitch Plastic Ball Grid Array 1.00 mm Pitch (FG256); Code_JEDEC: MO-192-DAF-1; ComponentLink1Description: Manufacturer URL; ComponentLink1URL: http://www.actel.com/; ComponentLink2Description: SmartFusion Datasheet; ComponentLink2URL: http://www.actel.com/documents/SmartFusion_DS.pdf; ComponentLink3Description: Package Mechanical Drawings; ComponentLink3URL: http://www.actel.com/documents/PckgMechDrwngs.pdf; ComponentLink4Description: SmartFusion Documents; ComponentLink4URL: http://www.actel.com/products/smartfusion/docs.aspx
footprint FG256 (BGA, 256-Leads, Body 17x17mm, Pitch 1mm)
part A pins: A3 EMC_AB[0]/IO04NDB0V0 (io), A4 EMC_AB[1]/IO04PDB0V0 (io), A6 EMC_AB[3]/IO05PDB0V0 (io), A7 EMC_AB[5]/IO06PDB0V0 (io), A10 EMC_AB[14]/IO11NDB0V0 (io), A11 EMC_AB[15]/IO11PDB0V0 (io), A13 EMC_AB[20]/IO14NDB0V0 (io), A14 EMC_AB[24]/IO16NDB0V0 (io), B3 EMC_BYTEN[1]/GAC1/IO02PDB0V0 (io), B4 EMC_OEN0_N/IO03NDB0V0 (io), B5 EMC_OEN1_N/IO03PDB0V0 (io), B6 EMC_AB[2]/IO05NDB0V0 (io), B7 EMC_AB[4]/IO06NDB0V0 (io), B8 EMC_AB[9]/IO08PDB0V0 (io), B9 EMC_AB[12]/IO10NDB0V0 (io), B10 EMC_AB[13]/IO10PDB0V0 (io), B11 EMC_AB[16]/IO12NDB0V0 (io), B12 EMC_AB[18]/IO13NDB0V0 (io), B13 EMC_AB[21]/IO14PDB0V0 (io), B14 EMC_AB[25]/IO16PDB0V0 (io), C3 EMC_BYTEN[0]/GAC0/IO02NDB0V0 (io), C5 EMC_CS0_N/GAB0/IO01NDB0V0 (io), C6 EMC_CS1_N/GAB1/IO01PDB0V0 (io), C8 EMC_AB[8]/IO08NDB0V0 (io), C9 EMC_AB[11]/IO09PDB0V0 (io), C11 EMC_AB[17]/IO12PDB0V0 (io), C12 EMC_AB[19]/IO13PDB0V0 (io), D5 EMC_CLK/GAA0/IO00NDB0V0 (io), D6 EMC_RW_N/GAA1/IO00PDB0V0 (io), D7 EMC_AB[6]/IO07NDB0V0 (io), D8 EMC_AB[7]/IO07PDB0V0 (io), D9 EMC_AB[10]/IO09NDB0V0 (io), D10 EMC_AB[22]/IO15NDB0V0 (io), D11 EMC_AB[23]/IO15PDB0V0 (io)
part B pins: C14 GBA2/IO20PPB1V0 (io), C15 GCA2/IO23PDB1V0 (io), C16 IO23NDB1V0 (io), D13 GBB2/IO20NPB1V0 (io), D14 GCB2/IO24PDB1V0 (io), D15 IO24NDB1V0 (io), E12 GCA1/IO28PDB1V0 (io), E14 GCB1/IO27PDB1V0 (io), E15 GDC1/IO29PDB1V0 (io), E16 GDC0/IO29NDB1V0 (io), F12 GCA0/IO28NDB1V0 (io), F14 GCB0/IO27NDB1V0 (io)
part C pins: K1 MAC_MDIO/IO49RSB4V0 (io), K2 MAC_MDC/IO48RSB4V0 (io), L2 MAC_TXEN/IO52RSB4V0 (io), L3 MAC_CRSDV/IO51RSB4V0 (io), L4 MAC_RXER/IO50RSB4V0 (io), M1 MAC_TXD[0]/IO56RSB4V0 (io), M2 MAC_TXD[1]/IO55RSB4V0 (io), M3 MAC_RXD[0]/IO54RSB4V0 (io), N1 MAC_RXD[1]/IO53RSB4V0 (io)
part D pins: B1 EMC_DB[15]/GAA2/IO71PDB5V0 (io), C1 EMC_DB[14]/GAB2/IO71NDB5V0 (io), E1 EMC_DB[13]/GAC2/IO70PDB5V0 (io), E2 EMC_DB[12]/IO70NDB5V0 (io), E3 GFA2/IO68PDB5V0 (io), E4 EMC_DB[10]/IO69NPB5V0 (io), F1 EMC_DB[9]/GEC1/IO63PDB5V0 (io), F3 GFB2/IO68NDB5V0 (io), F5 EMC_DB[11]/IO69PPB5V0 (io), G1 EMC_DB[8]/GEC0/IO63NDB5V0 (io), G2 EMC_DB[7]/GEB1/IO62PDB5V0 (io), G3 EMC_DB[6]/GEB0/IO62NDB5V0 (io), G4 GFC2/IO67PDB5V0 (io), G5 IO67NDB5V0 (io), H2 EMC_DB[5]/GEA1/IO61PPB5V0 (io), H4 EMC_DB[1]/GEB2/IO59PDB5V0 (io), H5 EMC_DB[0]/GEA2/IO59NDB5V0 (io), J1 EMC_DB[4]/GEA0/IO61NPB5V0 (io), J2 EMC_DB[3]/GEC2/IO60PDB5V0 (io), J3 EMC_DB[2]/IO60NDB5V0 (io)
part E pins: G13 TRSTB (in), G14 TMS (in), G15 TCK (in), H13 TDO (out), H14 TDI (in), H15 JTAGSEL (in)
part F pins: K4 MSS_RESET_N (in), P15 PTEM, P16 PTBASE, R1 PCAP, R12 MAINXIN (in), R13 MAINXOUT (out), R14 LPXIN (in), R15 LPXOUT (out), T1 NCAP, T16 PU_N (in)
part G pins: J12 I2C_0_SCL/GPIO_23 (io), J13 I2C_0_SDA/GPIO_22 (io), J14 I2C_1_SCL/GPIO_31 (io), J16 I2C_1_SDA/GPIO_30 (io), K12 UART_0_RXD/GPIO_21 (io), K14 UART_1_TXD/GPIO_28 (io), K15 UART_1_RXD/GPIO_29 (io), K16 UART_0_TXD/GPIO_20 (io), L5 MAC_CLK (in), L12 SPI_1_DO/GPIO_24 (io), L13 SPI_1_SS/GPIO_27 (io), L14 SPI_1_CLK/GPIO_26 (io), L15 SPI_1_DI/GPIO_25 (io), M13 SPI_0_SS/GPIO_19 (io), M15 SPI_0_CLK/GPIO_18 (io), M16 SPI_0_DI/GPIO_17 (io), N16 SPI_0_DO/GPIO_16 (io)
part H pins: M5 ADC3 (in), M9 ADC4 (in), M11 TM2 (in), M12 CM2 (in), N5 ABPS3 (in), N6 TM1 (in), N9 ADC5 (in), N10 CM3 (in), P6 CM1 (in), P7 ADC2 (in), P9 ADC6 (in), P10 TM3 (in), R2 SDD0 (out), R3 ABPS0 (in), R4 TM0 (in), R5 ABPS2 (in), R6 ADC1 (in), R9 ADC7 (in), R10 ABPS7 (in), R11 ABPS4 (in), T2 ABPS1 (in), T3 CM0 (in), T5 ADC0 (in), T10 ABPS6 (in), T11 ABPS5 (in), T12 SDD1 (out)
part I pins: A2 VCCFPGAIOB0 (power), A8 VCCFPGAIOB0 (power), A15 VCCFPGAIOB0 (power), C2 VCCPLL (power), C4 VCCFPGAIOB0 (power), C10 VCCFPGAIOB0 (power), D1 VCCFPGAIOB5 (power), D16 VCCFPGAIOB1 (power), E7 VCCFPGAIOB0 (power), E9 VCCFPGAIOB0 (power), E11 VCCFPGAIOB0 (power), E13 VCCFPGAIOB1 (power), F4 VCCFPGAIOB5 (power), F6 VCCFPGAIOB5 (power), F8 VCC (power), F10 VCC (power), F16 VCCENVM (power), G7 VCC (power), G9 VCC (power), G11 VCCFPGAIOB1 (power), G12 VPP (power), H3 VCCFPGAIOB5 (power), H6 VCCFPGAIOB5 (power), H8 VCC (power), H10 VCC (power), H12 VJTAG (power), J7 VCC (power), J9 VCC (power), J11 VCCMSSIOB2 (power), J15 VCCMSSIOB2 (power), K3 VCCMSSIOB4 (power), K5 VCCRCOSC (power), K6 VCCMSSIOB4 (power), K8 VCC (power), K10 VCC (power), L7 VCC (power), L9 VCC (power), L11 VCCMSSIOB2 (power), M14 VCCMSSIOB2 (power), N2 VCCMSSIOB4 (power), N3 VCC15A (power), N4 VCC33AP (power), N8 VCC33ADC1 (power), N12 VAREFOUT (power), N14 VCC33SDD1 (power), P2 VCC33SDD0 (power), P3 VCC33N (power), P8 VCC15ADC0 (power), P12 VCCMAINXTAL (power), P14 VDDBAT (power), R7 VCC33ADC0 (power), R8 VCC15ADC1 (power), R16 VCC33A (power), T6 VAREF0 (power), T9 VAREF1 (power), T15 VCCLPXTAL (power)
part J pins: A1 GND (power), A5 GND (power), A9 GND (power), A12 GND (power), A16 GND (power), B2 GND (power), B15 GND (power), B16 GNDQ (power), C7 GND (power), C13 GND (power), D2 VCOMPLA (power), D3 GND (power), D4 GNDQ (power), D12 GNDQ (power), E5 GNDQ (power), E6 GND (power), E8 GND (power), E10 GND (power), F2 GND (power), F7 GND (power), F9 GND (power), F11 GND (power), F13 GNDQ (power), F15 GND (power), G6 GND (power), G8 GND (power), G10 GND (power), G16 GNDENVM (power), H1 GND (power), H7 GND (power), H9 GND (power), H11 GND (power), H16 GND (power), J4 GNDRCOSC (power), J5 GNDQ (power), J6 GND (power), J8 GND (power), J10 GND (power), K7 GND (power), K9 GND (power), K11 GND (power), K13 GND (power), L1 GND (power), L6 GND (power), L8 GND (power), L10 GND (power), L16 GND (power), M4 GND (power), M6 GND15ADC0 (power), M7 GND33ADC1 (power), M8 GND33ADC1 (power), M10 GNDTM1 (power), N7 GND33ADC0 (power), N11 GNDAQ (power), N13 GNDSDD1 (power), N15 GND (power), P1 GNDSDD0 (power), P4 GNDA (power), P5 GNDAQ (power), P11 GNDA (power), P13 GNDLPXTAL (power), T4 GNDTM0 (power), T7 GND33ADC0 (power), T8 GND15ADC1 (power), T13 GNDVAREF (power), T14 GNDMAINXTAL (power)
part A text: BANK 0
part B text: BANK 1
part C text: BANK 4
part D text: BANK 5

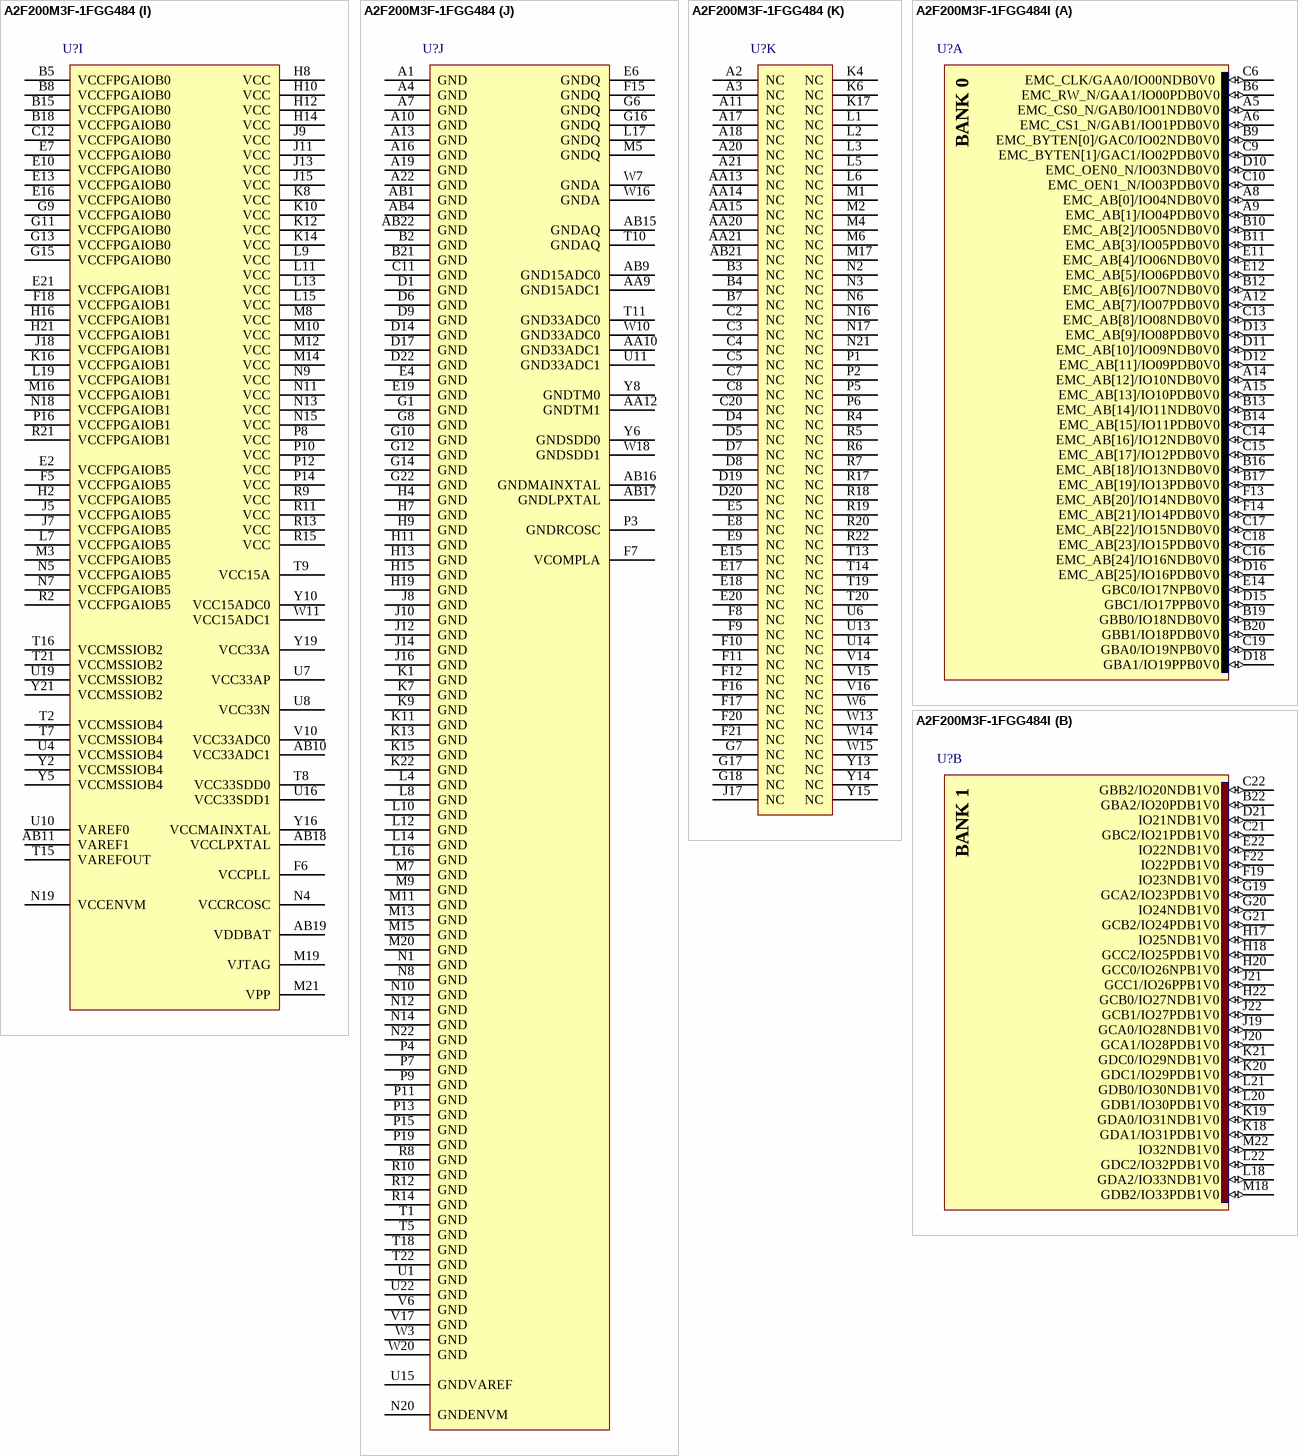
[diagram p27: symbols A2F200M3F-1FGG484 to A2F200M3F-1FGG484I]